# Altium schematic symbol library MCU_Microchip_ATmega.SchLib: 440 symbols (part 5 of 9)
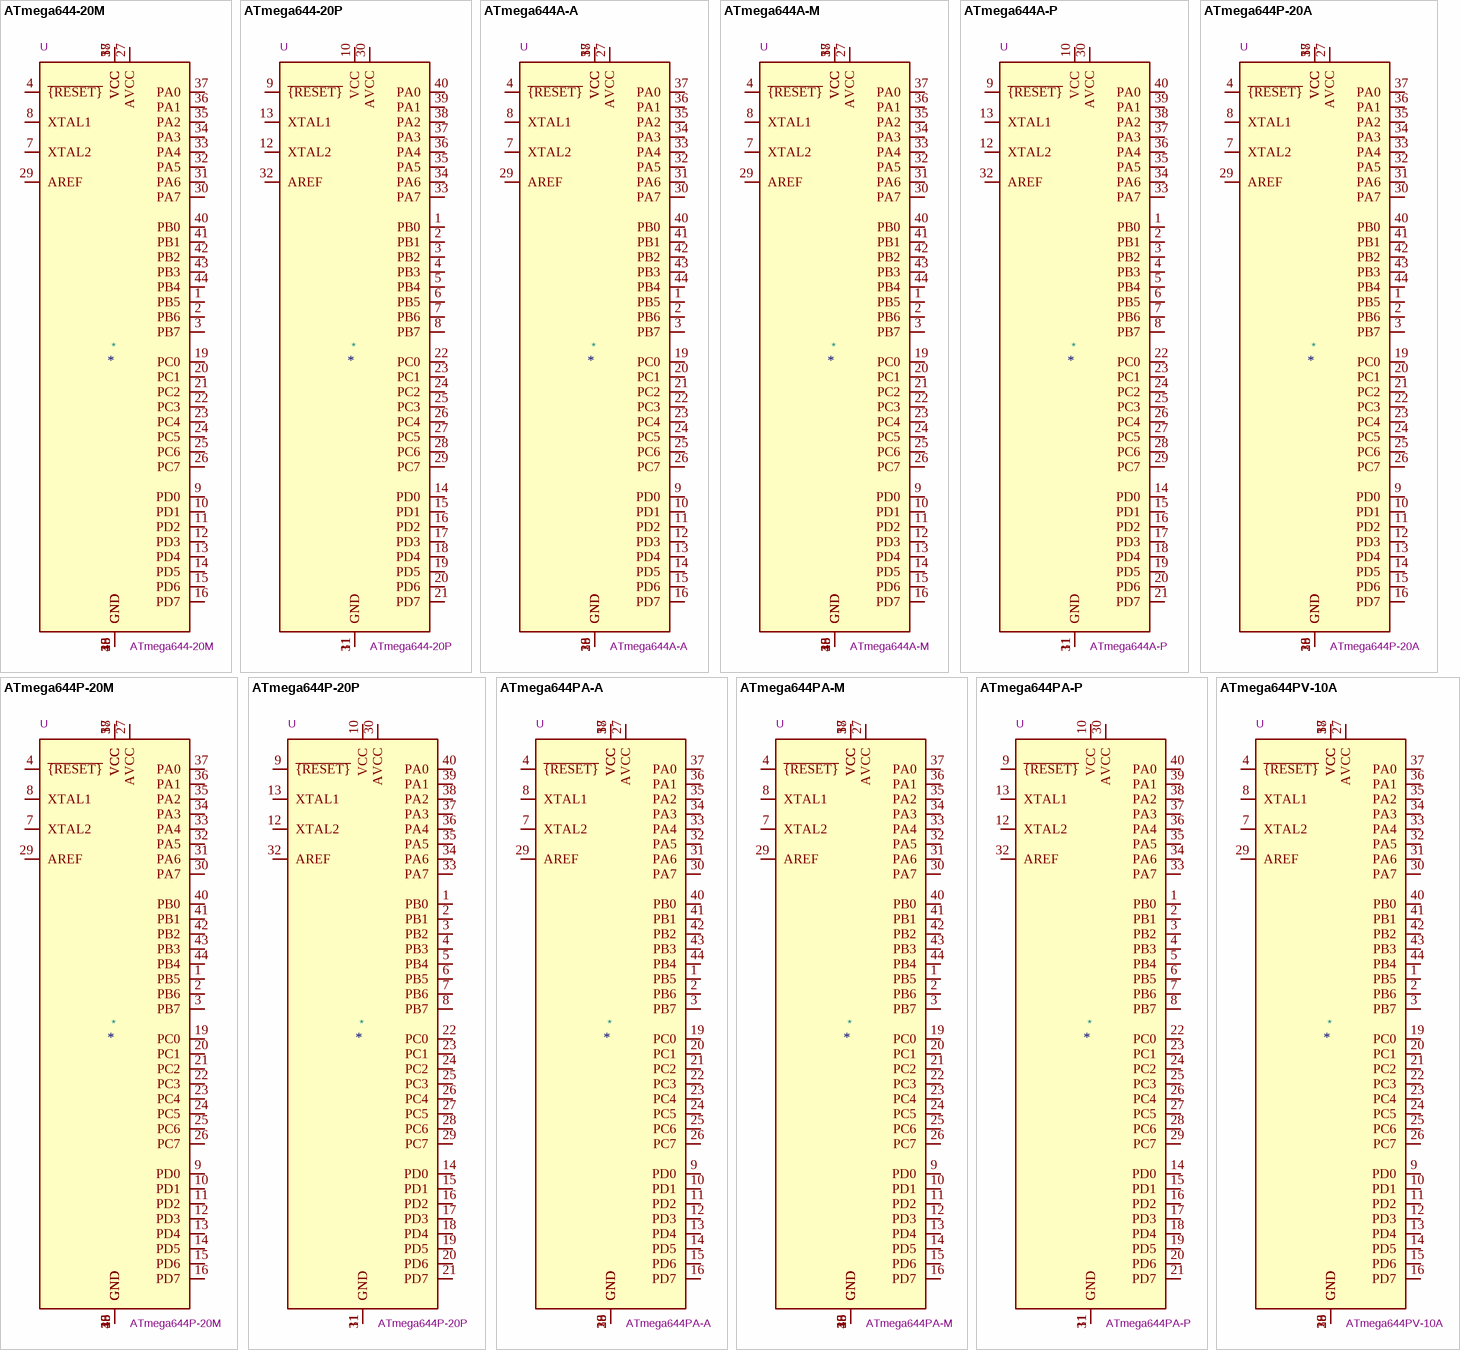
[diagram p44: symbols ATmega644-20M to ATmega644PV-10A]

## ATmega644PA-M
designator *  value ATmega644PA-M  Reference: U
20MHz, 64kB Flash, 4kB SRAM, 2kB EEPROM, JTAG, QFN-44; ki_keywords: AVR 8bit Microcontroller MegaAVR PicoPower; ki_fp_filters: QFN*1EP*7x7mm*P0.5mm*; Footprint: Package_DFN_QFN:QFN-44-1EP_7x7mm_P0.5mm_EP5.2x5.2mm; Datasheet: http://ww1.microchip.com/downloads/en/DeviceDoc/Atmel-8272-8-bit-AVR-microcontroller-ATmega164A_PA-324A_PA-644A_PA-1284_P_datasheet.pdf; Description_: 20MHz, 64kB Flash, 4kB SRAM, 2kB EEPROM, JTAG, QFN-44
pins: 1 PB5, 2 PB6, 3 PB7, 4 ~{{RESET}}, 5 VCC, 6 GND, 7 XTAL2, 8 XTAL1, 9 PD0, 10 PD1, 11 PD2, 12 PD3, 13 PD4, 14 PD5, 15 PD6, 16 PD7, 17 VCC, 18 GND, 19 PC0, 20 PC1, 21 PC2, 22 PC3, 23 PC4, 24 PC5, 25 PC6, 26 PC7, 27 AVCC, 28 GND, 29 AREF, 30 PA7, 31 PA6, 32 PA5, 33 PA4, 34 PA3, 35 PA2, 36 PA1, 37 PA0, 38 VCC, 39 GND, 40 PB0, 41 PB1, 42 PB2, 43 PB3, 44 PB4, 45 GND

## ATmega644PA-P
designator *  value ATmega644PA-P  Reference: U
20MHz, 64kB Flash, 4kB SRAM, 2kB EEPROM, JTAG, DIP-40; ki_keywords: AVR 8bit Microcontroller MegaAVR PicoPower; ki_fp_filters: DIP*W15.24mm*; Footprint: Package_DIP:DIP-40_W15.24mm; Datasheet: http://ww1.microchip.com/downloads/en/DeviceDoc/Atmel-8272-8-bit-AVR-microcontroller-ATmega164A_PA-324A_PA-644A_PA-1284_P_datasheet.pdf; Description_: 20MHz, 64kB Flash, 4kB SRAM, 2kB EEPROM, JTAG, DIP-40
pins: 1 PB0, 2 PB1, 3 PB2, 4 PB3, 5 PB4, 6 PB5, 7 PB6, 8 PB7, 9 ~{{RESET}}, 10 VCC, 11 GND, 12 XTAL2, 13 XTAL1, 14 PD0, 15 PD1, 16 PD2, 17 PD3, 18 PD4, 19 PD5, 20 PD6, 21 PD7, 22 PC0, 23 PC1, 24 PC2, 25 PC3, 26 PC4, 27 PC5, 28 PC6, 29 PC7, 30 AVCC, 31 GND, 32 AREF, 33 PA7, 34 PA6, 35 PA5, 36 PA4, 37 PA3, 38 PA2, 39 PA1, 40 PA0

## ATmega644PV-10A
designator *  value ATmega644PV-10A  Reference: U
10MHz, 64kB Flash, 4kB SRAM, 2kB EEPROM, JTAG, TQFP-44; ki_keywords: AVR 8bit Microcontroller MegaAVR PicoPower; ki_fp_filters: TQFP*10x10mm*P0.8mm*; Footprint: Package_QFP:TQFP-44_10x10mm_P0.8mm; Datasheet: http://ww1.microchip.com/downloads/en/DeviceDoc/Atmel-42744-ATmega644P_Datasheet.pdf; Description_: 10MHz, 64kB Flash, 4kB SRAM, 2kB EEPROM, JTAG, TQFP-44
pins: 1 PB5, 2 PB6, 3 PB7, 4 ~{{RESET}}, 5 VCC, 6 GND, 7 XTAL2, 8 XTAL1, 9 PD0, 10 PD1, 11 PD2, 12 PD3, 13 PD4, 14 PD5, 15 PD6, 16 PD7, 17 VCC, 18 GND, 19 PC0, 20 PC1, 21 PC2, 22 PC3, 23 PC4, 24 PC5, 25 PC6, 26 PC7, 27 AVCC, 28 GND, 29 AREF, 30 PA7, 31 PA6, 32 PA5, 33 PA4, 34 PA3, 35 PA2, 36 PA1, 37 PA0, 38 VCC, 39 GND, 40 PB0, 41 PB1, 42 PB2, 43 PB3, 44 PB4

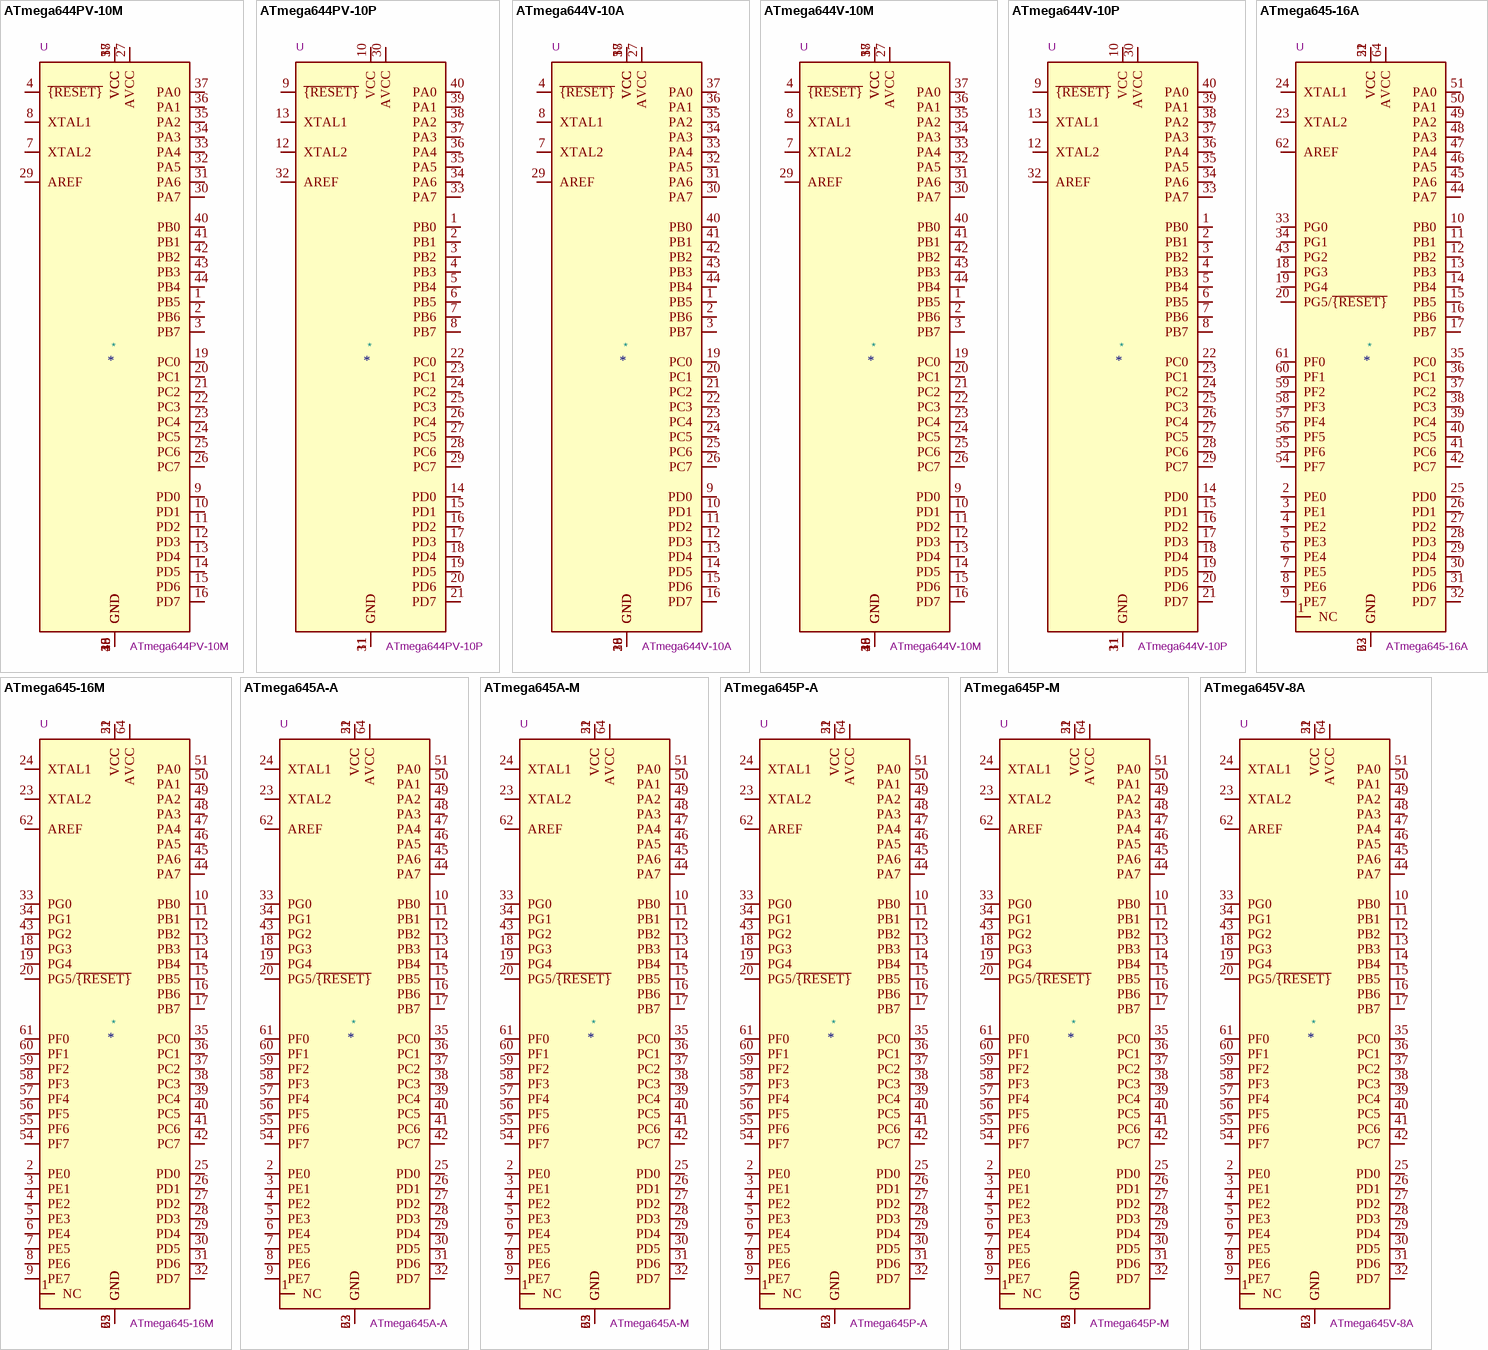
[diagram p20: symbols ATmega644PV-10M to ATmega645V-8A]

## ATmega644PV-10M
designator *  value ATmega644PV-10M  Reference: U
10MHz, 64kB Flash, 4kB SRAM, 2kB EEPROM, JTAG, QFN-44; ki_keywords: AVR 8bit Microcontroller MegaAVR PicoPower; ki_fp_filters: QFN*1EP*7x7mm*P0.5mm*; Footprint: Package_DFN_QFN:QFN-44-1EP_7x7mm_P0.5mm_EP5.2x5.2mm; Datasheet: http://ww1.microchip.com/downloads/en/DeviceDoc/Atmel-42744-ATmega644P_Datasheet.pdf; Description_: 10MHz, 64kB Flash, 4kB SRAM, 2kB EEPROM, JTAG, QFN-44
pins: 1 PB5, 2 PB6, 3 PB7, 4 ~{{RESET}}, 5 VCC, 6 GND, 7 XTAL2, 8 XTAL1, 9 PD0, 10 PD1, 11 PD2, 12 PD3, 13 PD4, 14 PD5, 15 PD6, 16 PD7, 17 VCC, 18 GND, 19 PC0, 20 PC1, 21 PC2, 22 PC3, 23 PC4, 24 PC5, 25 PC6, 26 PC7, 27 AVCC, 28 GND, 29 AREF, 30 PA7, 31 PA6, 32 PA5, 33 PA4, 34 PA3, 35 PA2, 36 PA1, 37 PA0, 38 VCC, 39 GND, 40 PB0, 41 PB1, 42 PB2, 43 PB3, 44 PB4, 45 GND

## ATmega644PV-10P
designator *  value ATmega644PV-10P  Reference: U
10MHz, 64kB Flash, 4kB SRAM, 2kB EEPROM, JTAG, DIP-40; ki_keywords: AVR 8bit Microcontroller MegaAVR PicoPower; ki_fp_filters: DIP*W15.24mm*; Footprint: Package_DIP:DIP-40_W15.24mm; Datasheet: http://ww1.microchip.com/downloads/en/DeviceDoc/Atmel-42744-ATmega644P_Datasheet.pdf; Description_: 10MHz, 64kB Flash, 4kB SRAM, 2kB EEPROM, JTAG, DIP-40
pins: 1 PB0, 2 PB1, 3 PB2, 4 PB3, 5 PB4, 6 PB5, 7 PB6, 8 PB7, 9 ~{{RESET}}, 10 VCC, 11 GND, 12 XTAL2, 13 XTAL1, 14 PD0, 15 PD1, 16 PD2, 17 PD3, 18 PD4, 19 PD5, 20 PD6, 21 PD7, 22 PC0, 23 PC1, 24 PC2, 25 PC3, 26 PC4, 27 PC5, 28 PC6, 29 PC7, 30 AVCC, 31 GND, 32 AREF, 33 PA7, 34 PA6, 35 PA5, 36 PA4, 37 PA3, 38 PA2, 39 PA1, 40 PA0

## ATmega644V-10A
designator *  value ATmega644V-10A  Reference: U
10MHz, 64kB Flash, 4kB SRAM, 2kB EEPROM, JTAG, TQFP-44; ki_keywords: AVR 8bit Microcontroller MegaAVR; ki_fp_filters: TQFP*10x10mm*P0.8mm*; Footprint: Package_QFP:TQFP-44_10x10mm_P0.8mm; Datasheet: http://ww1.microchip.com/downloads/en/DeviceDoc/doc2593.pdf; Description_: 10MHz, 64kB Flash, 4kB SRAM, 2kB EEPROM, JTAG, TQFP-44
pins: 1 PB5, 2 PB6, 3 PB7, 4 ~{{RESET}}, 5 VCC, 6 GND, 7 XTAL2, 8 XTAL1, 9 PD0, 10 PD1, 11 PD2, 12 PD3, 13 PD4, 14 PD5, 15 PD6, 16 PD7, 17 VCC, 18 GND, 19 PC0, 20 PC1, 21 PC2, 22 PC3, 23 PC4, 24 PC5, 25 PC6, 26 PC7, 27 AVCC, 28 GND, 29 AREF, 30 PA7, 31 PA6, 32 PA5, 33 PA4, 34 PA3, 35 PA2, 36 PA1, 37 PA0, 38 VCC, 39 GND, 40 PB0, 41 PB1, 42 PB2, 43 PB3, 44 PB4

## ATmega644V-10M
designator *  value ATmega644V-10M  Reference: U
10MHz, 64kB Flash, 4kB SRAM, 2kB EEPROM, JTAG, QFN-44; ki_keywords: AVR 8bit Microcontroller MegaAVR; ki_fp_filters: QFN*1EP*7x7mm*P0.5mm*; Footprint: Package_DFN_QFN:QFN-44-1EP_7x7mm_P0.5mm_EP5.2x5.2mm; Datasheet: http://ww1.microchip.com/downloads/en/DeviceDoc/doc2593.pdf; Description_: 10MHz, 64kB Flash, 4kB SRAM, 2kB EEPROM, JTAG, QFN-44
pins: 1 PB5, 2 PB6, 3 PB7, 4 ~{{RESET}}, 5 VCC, 6 GND, 7 XTAL2, 8 XTAL1, 9 PD0, 10 PD1, 11 PD2, 12 PD3, 13 PD4, 14 PD5, 15 PD6, 16 PD7, 17 VCC, 18 GND, 19 PC0, 20 PC1, 21 PC2, 22 PC3, 23 PC4, 24 PC5, 25 PC6, 26 PC7, 27 AVCC, 28 GND, 29 AREF, 30 PA7, 31 PA6, 32 PA5, 33 PA4, 34 PA3, 35 PA2, 36 PA1, 37 PA0, 38 VCC, 39 GND, 40 PB0, 41 PB1, 42 PB2, 43 PB3, 44 PB4, 45 GND

## ATmega644V-10P
designator *  value ATmega644V-10P  Reference: U
10MHz, 64kB Flash, 4kB SRAM, 2kB EEPROM, JTAG, DIP-40; ki_keywords: AVR 8bit Microcontroller MegaAVR; ki_fp_filters: DIP*W15.24mm*; Footprint: Package_DIP:DIP-40_W15.24mm; Datasheet: http://ww1.microchip.com/downloads/en/DeviceDoc/doc2593.pdf; Description_: 10MHz, 64kB Flash, 4kB SRAM, 2kB EEPROM, JTAG, DIP-40
pins: 1 PB0, 2 PB1, 3 PB2, 4 PB3, 5 PB4, 6 PB5, 7 PB6, 8 PB7, 9 ~{{RESET}}, 10 VCC, 11 GND, 12 XTAL2, 13 XTAL1, 14 PD0, 15 PD1, 16 PD2, 17 PD3, 18 PD4, 19 PD5, 20 PD6, 21 PD7, 22 PC0, 23 PC1, 24 PC2, 25 PC3, 26 PC4, 27 PC5, 28 PC6, 29 PC7, 30 AVCC, 31 GND, 32 AREF, 33 PA7, 34 PA6, 35 PA5, 36 PA4, 37 PA3, 38 PA2, 39 PA1, 40 PA0

## ATmega645-16A
designator *  value ATmega645-16A  Reference: U
16MHz, 64kB Flash, 4kB SRAM, 2kB EEPROM, JTAG, TQFP-64; ki_keywords: AVR 8bit Microcontroller MegaAVR; ki_fp_filters: TQFP*14x14mm*P0.8mm*; Footprint: Package_QFP:TQFP-64_14x14mm_P0.8mm; Datasheet: http://ww1.microchip.com/downloads/en/DeviceDoc/doc2570.pdf; Description_: 16MHz, 64kB Flash, 4kB SRAM, 2kB EEPROM, JTAG, TQFP-64
pins: 1 NC, 2 PE0, 3 PE1, 4 PE2, 5 PE3, 6 PE4, 7 PE5, 8 PE6, 9 PE7, 10 PB0, 11 PB1, 12 PB2, 13 PB3, 14 PB4, 15 PB5, 16 PB6, 17 PB7, 18 PG3, 19 PG4, 20 PG5/~{{RESET}}, 21 VCC, 22 GND, 23 XTAL2, 24 XTAL1, 25 PD0, 26 PD1, 27 PD2, 28 PD3, 29 PD4, 30 PD5, 31 PD6, 32 PD7, 33 PG0, 34 PG1, 35 PC0, 36 PC1, 37 PC2, 38 PC3, 39 PC4, 40 PC5, 41 PC6, 42 PC7, 43 PG2, 44 PA7, 45 PA6, 46 PA5, 47 PA4, 48 PA3, 49 PA2, 50 PA1, 51 PA0, 52 VCC, 53 GND, 54 PF7, 55 PF6, 56 PF5, 57 PF4, 58 PF3, 59 PF2, 60 PF1, 61 PF0, 62 AREF, 63 GND, 64 AVCC

## ATmega645-16M
designator *  value ATmega645-16M  Reference: U
16MHz, 64kB Flash, 4kB SRAM, 2kB EEPROM, JTAG, QFN-64; ki_keywords: AVR 8bit Microcontroller MegaAVR; ki_fp_filters: QFN*1EP*9x9mm*P0.5mm*; Footprint: Package_DFN_QFN:QFN-64-1EP_9x9mm_P0.5mm_EP5.4x5.4mm; Datasheet: http://ww1.microchip.com/downloads/en/DeviceDoc/doc2570.pdf; Description_: 16MHz, 64kB Flash, 4kB SRAM, 2kB EEPROM, JTAG, QFN-64
pins: 1 NC, 2 PE0, 3 PE1, 4 PE2, 5 PE3, 6 PE4, 7 PE5, 8 PE6, 9 PE7, 10 PB0, 11 PB1, 12 PB2, 13 PB3, 14 PB4, 15 PB5, 16 PB6, 17 PB7, 18 PG3, 19 PG4, 20 PG5/~{{RESET}}, 21 VCC, 22 GND, 23 XTAL2, 24 XTAL1, 25 PD0, 26 PD1, 27 PD2, 28 PD3, 29 PD4, 30 PD5, 31 PD6, 32 PD7, 33 PG0, 34 PG1, 35 PC0, 36 PC1, 37 PC2, 38 PC3, 39 PC4, 40 PC5, 41 PC6, 42 PC7, 43 PG2, 44 PA7, 45 PA6, 46 PA5, 47 PA4, 48 PA3, 49 PA2, 50 PA1, 51 PA0, 52 VCC, 53 GND, 54 PF7, 55 PF6, 56 PF5, 57 PF4, 58 PF3, 59 PF2, 60 PF1, 61 PF0, 62 AREF, 63 GND, 64 AVCC, 65 GND

## ATmega645A-A
designator *  value ATmega645A-A  Reference: U
20MHz, 64kB Flash, 4kB SRAM, 2kB EEPROM, TQFP-64; ki_keywords: AVR 8bit Microcontroller MegaAVR PicoPower; ki_fp_filters: TQFP*14x14mm*P0.8mm*; Footprint: Package_QFP:TQFP-64_14x14mm_P0.8mm; Datasheet: http://ww1.microchip.com/downloads/en/DeviceDoc/atmel-8285-8-bit-avr-microcontroller-atmega165a_pa_325a_pa_3250a_pa_645a_p_6450a_p_datasheet.pdf; Description_: 20MHz, 64kB Flash, 4kB SRAM, 2kB EEPROM, TQFP-64
pins: 1 NC, 2 PE0, 3 PE1, 4 PE2, 5 PE3, 6 PE4, 7 PE5, 8 PE6, 9 PE7, 10 PB0, 11 PB1, 12 PB2, 13 PB3, 14 PB4, 15 PB5, 16 PB6, 17 PB7, 18 PG3, 19 PG4, 20 PG5/~{{RESET}}, 21 VCC, 22 GND, 23 XTAL2, 24 XTAL1, 25 PD0, 26 PD1, 27 PD2, 28 PD3, 29 PD4, 30 PD5, 31 PD6, 32 PD7, 33 PG0, 34 PG1, 35 PC0, 36 PC1, 37 PC2, 38 PC3, 39 PC4, 40 PC5, 41 PC6, 42 PC7, 43 PG2, 44 PA7, 45 PA6, 46 PA5, 47 PA4, 48 PA3, 49 PA2, 50 PA1, 51 PA0, 52 VCC, 53 GND, 54 PF7, 55 PF6, 56 PF5, 57 PF4, 58 PF3, 59 PF2, 60 PF1, 61 PF0, 62 AREF, 63 GND, 64 AVCC

## ATmega645A-M
designator *  value ATmega645A-M  Reference: U
20MHz, 64kB Flash, 4kB SRAM, 2kB EEPROM, QFN-64; ki_keywords: AVR 8bit Microcontroller MegaAVR PicoPower; ki_fp_filters: QFN*1EP*9x9mm*P0.5mm*; Footprint: Package_DFN_QFN:QFN-64-1EP_9x9mm_P0.5mm_EP5.4x5.4mm; Datasheet: http://ww1.microchip.com/downloads/en/DeviceDoc/atmel-8285-8-bit-avr-microcontroller-atmega165a_pa_325a_pa_3250a_pa_645a_p_6450a_p_datasheet.pdf; Description_: 20MHz, 64kB Flash, 4kB SRAM, 2kB EEPROM, QFN-64
pins: 1 NC, 2 PE0, 3 PE1, 4 PE2, 5 PE3, 6 PE4, 7 PE5, 8 PE6, 9 PE7, 10 PB0, 11 PB1, 12 PB2, 13 PB3, 14 PB4, 15 PB5, 16 PB6, 17 PB7, 18 PG3, 19 PG4, 20 PG5/~{{RESET}}, 21 VCC, 22 GND, 23 XTAL2, 24 XTAL1, 25 PD0, 26 PD1, 27 PD2, 28 PD3, 29 PD4, 30 PD5, 31 PD6, 32 PD7, 33 PG0, 34 PG1, 35 PC0, 36 PC1, 37 PC2, 38 PC3, 39 PC4, 40 PC5, 41 PC6, 42 PC7, 43 PG2, 44 PA7, 45 PA6, 46 PA5, 47 PA4, 48 PA3, 49 PA2, 50 PA1, 51 PA0, 52 VCC, 53 GND, 54 PF7, 55 PF6, 56 PF5, 57 PF4, 58 PF3, 59 PF2, 60 PF1, 61 PF0, 62 AREF, 63 GND, 64 AVCC, 65 GND

## ATmega645P-A
designator *  value ATmega645P-A  Reference: U
20MHz, 64kB Flash, 4kB SRAM, 2kB EEPROM, TQFP-64; ki_keywords: AVR 8bit Microcontroller MegaAVR PicoPower; ki_fp_filters: TQFP*14x14mm*P0.8mm*; Footprint: Package_QFP:TQFP-64_14x14mm_P0.8mm; Datasheet: http://ww1.microchip.com/downloads/en/DeviceDoc/atmel-8285-8-bit-avr-microcontroller-atmega165a_pa_325a_pa_3250a_pa_645a_p_6450a_p_datasheet.pdf; Description_: 20MHz, 64kB Flash, 4kB SRAM, 2kB EEPROM, TQFP-64
pins: 1 NC, 2 PE0, 3 PE1, 4 PE2, 5 PE3, 6 PE4, 7 PE5, 8 PE6, 9 PE7, 10 PB0, 11 PB1, 12 PB2, 13 PB3, 14 PB4, 15 PB5, 16 PB6, 17 PB7, 18 PG3, 19 PG4, 20 PG5/~{{RESET}}, 21 VCC, 22 GND, 23 XTAL2, 24 XTAL1, 25 PD0, 26 PD1, 27 PD2, 28 PD3, 29 PD4, 30 PD5, 31 PD6, 32 PD7, 33 PG0, 34 PG1, 35 PC0, 36 PC1, 37 PC2, 38 PC3, 39 PC4, 40 PC5, 41 PC6, 42 PC7, 43 PG2, 44 PA7, 45 PA6, 46 PA5, 47 PA4, 48 PA3, 49 PA2, 50 PA1, 51 PA0, 52 VCC, 53 GND, 54 PF7, 55 PF6, 56 PF5, 57 PF4, 58 PF3, 59 PF2, 60 PF1, 61 PF0, 62 AREF, 63 GND, 64 AVCC

## ATmega645P-M
designator *  value ATmega645P-M  Reference: U
20MHz, 64kB Flash, 4kB SRAM, 2kB EEPROM, QFN-64; ki_keywords: AVR 8bit Microcontroller MegaAVR PicoPower; ki_fp_filters: QFN*1EP*9x9mm*P0.5mm*; Footprint: Package_DFN_QFN:QFN-64-1EP_9x9mm_P0.5mm_EP5.4x5.4mm; Datasheet: http://ww1.microchip.com/downloads/en/DeviceDoc/atmel-8285-8-bit-avr-microcontroller-atmega165a_pa_325a_pa_3250a_pa_645a_p_6450a_p_datasheet.pdf; Description_: 20MHz, 64kB Flash, 4kB SRAM, 2kB EEPROM, QFN-64
pins: 1 NC, 2 PE0, 3 PE1, 4 PE2, 5 PE3, 6 PE4, 7 PE5, 8 PE6, 9 PE7, 10 PB0, 11 PB1, 12 PB2, 13 PB3, 14 PB4, 15 PB5, 16 PB6, 17 PB7, 18 PG3, 19 PG4, 20 PG5/~{{RESET}}, 21 VCC, 22 GND, 23 XTAL2, 24 XTAL1, 25 PD0, 26 PD1, 27 PD2, 28 PD3, 29 PD4, 30 PD5, 31 PD6, 32 PD7, 33 PG0, 34 PG1, 35 PC0, 36 PC1, 37 PC2, 38 PC3, 39 PC4, 40 PC5, 41 PC6, 42 PC7, 43 PG2, 44 PA7, 45 PA6, 46 PA5, 47 PA4, 48 PA3, 49 PA2, 50 PA1, 51 PA0, 52 VCC, 53 GND, 54 PF7, 55 PF6, 56 PF5, 57 PF4, 58 PF3, 59 PF2, 60 PF1, 61 PF0, 62 AREF, 63 GND, 64 AVCC, 65 GND

## ATmega645V-8A
designator *  value ATmega645V-8A  Reference: U
8MHz, 64kB Flash, 4kB SRAM, 2kB EEPROM, JTAG, TQFP-64; ki_keywords: AVR 8bit Microcontroller MegaAVR; ki_fp_filters: TQFP*14x14mm*P0.8mm*; Footprint: Package_QFP:TQFP-64_14x14mm_P0.8mm; Datasheet: http://ww1.microchip.com/downloads/en/DeviceDoc/doc2570.pdf; Description_: 8MHz, 64kB Flash, 4kB SRAM, 2kB EEPROM, JTAG, TQFP-64
pins: 1 NC, 2 PE0, 3 PE1, 4 PE2, 5 PE3, 6 PE4, 7 PE5, 8 PE6, 9 PE7, 10 PB0, 11 PB1, 12 PB2, 13 PB3, 14 PB4, 15 PB5, 16 PB6, 17 PB7, 18 PG3, 19 PG4, 20 PG5/~{{RESET}}, 21 VCC, 22 GND, 23 XTAL2, 24 XTAL1, 25 PD0, 26 PD1, 27 PD2, 28 PD3, 29 PD4, 30 PD5, 31 PD6, 32 PD7, 33 PG0, 34 PG1, 35 PC0, 36 PC1, 37 PC2, 38 PC3, 39 PC4, 40 PC5, 41 PC6, 42 PC7, 43 PG2, 44 PA7, 45 PA6, 46 PA5, 47 PA4, 48 PA3, 49 PA2, 50 PA1, 51 PA0, 52 VCC, 53 GND, 54 PF7, 55 PF6, 56 PF5, 57 PF4, 58 PF3, 59 PF2, 60 PF1, 61 PF0, 62 AREF, 63 GND, 64 AVCC

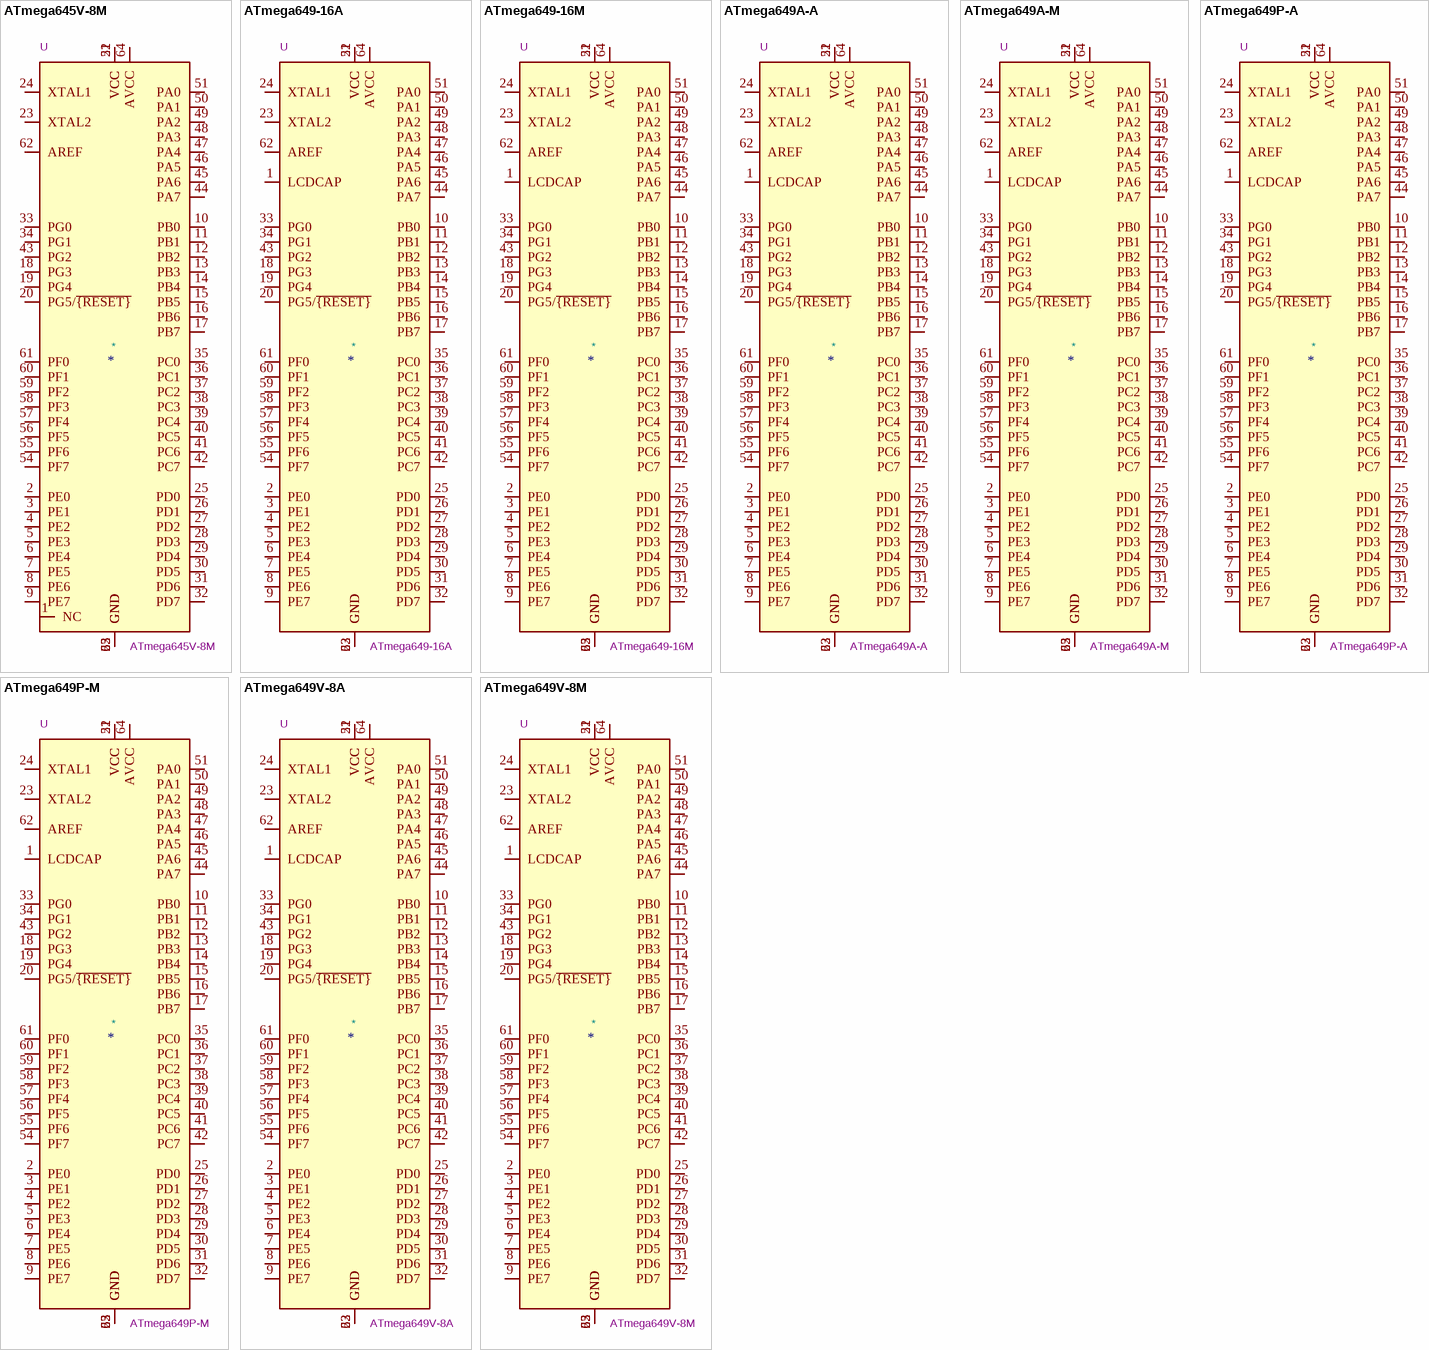
[diagram p21: symbols ATmega645V-8M to ATmega649V-8M]

## ATmega645V-8M
designator *  value ATmega645V-8M  Reference: U
8MHz, 64kB Flash, 4kB SRAM, 2kB EEPROM, JTAG, QFN-64; ki_keywords: AVR 8bit Microcontroller MegaAVR; ki_fp_filters: QFN*1EP*9x9mm*P0.5mm*; Footprint: Package_DFN_QFN:QFN-64-1EP_9x9mm_P0.5mm_EP5.4x5.4mm; Datasheet: http://ww1.microchip.com/downloads/en/DeviceDoc/doc2570.pdf; Description_: 8MHz, 64kB Flash, 4kB SRAM, 2kB EEPROM, JTAG, QFN-64
pins: 1 NC, 2 PE0, 3 PE1, 4 PE2, 5 PE3, 6 PE4, 7 PE5, 8 PE6, 9 PE7, 10 PB0, 11 PB1, 12 PB2, 13 PB3, 14 PB4, 15 PB5, 16 PB6, 17 PB7, 18 PG3, 19 PG4, 20 PG5/~{{RESET}}, 21 VCC, 22 GND, 23 XTAL2, 24 XTAL1, 25 PD0, 26 PD1, 27 PD2, 28 PD3, 29 PD4, 30 PD5, 31 PD6, 32 PD7, 33 PG0, 34 PG1, 35 PC0, 36 PC1, 37 PC2, 38 PC3, 39 PC4, 40 PC5, 41 PC6, 42 PC7, 43 PG2, 44 PA7, 45 PA6, 46 PA5, 47 PA4, 48 PA3, 49 PA2, 50 PA1, 51 PA0, 52 VCC, 53 GND, 54 PF7, 55 PF6, 56 PF5, 57 PF4, 58 PF3, 59 PF2, 60 PF1, 61 PF0, 62 AREF, 63 GND, 64 AVCC, 65 GND

## ATmega649-16A
designator *  value ATmega649-16A  Reference: U
16MHz, 64kB Flash, 4kB SRAM, 2kB EEPROM, JTAG, TQFP-64; ki_keywords: AVR 8bit Microcontroller MegaAVR; ki_fp_filters: TQFP*14x14mm*P0.8mm*; Footprint: Package_QFP:TQFP-64_14x14mm_P0.8mm; Datasheet: http://ww1.microchip.com/downloads/en/DeviceDoc/doc2552.pdf; Description_: 16MHz, 64kB Flash, 4kB SRAM, 2kB EEPROM, JTAG, TQFP-64
pins: 1 LCDCAP, 2 PE0, 3 PE1, 4 PE2, 5 PE3, 6 PE4, 7 PE5, 8 PE6, 9 PE7, 10 PB0, 11 PB1, 12 PB2, 13 PB3, 14 PB4, 15 PB5, 16 PB6, 17 PB7, 18 PG3, 19 PG4, 20 PG5/~{{RESET}}, 21 VCC, 22 GND, 23 XTAL2, 24 XTAL1, 25 PD0, 26 PD1, 27 PD2, 28 PD3, 29 PD4, 30 PD5, 31 PD6, 32 PD7, 33 PG0, 34 PG1, 35 PC0, 36 PC1, 37 PC2, 38 PC3, 39 PC4, 40 PC5, 41 PC6, 42 PC7, 43 PG2, 44 PA7, 45 PA6, 46 PA5, 47 PA4, 48 PA3, 49 PA2, 50 PA1, 51 PA0, 52 VCC, 53 GND, 54 PF7, 55 PF6, 56 PF5, 57 PF4, 58 PF3, 59 PF2, 60 PF1, 61 PF0, 62 AREF, 63 GND, 64 AVCC

## ATmega649-16M
designator *  value ATmega649-16M  Reference: U
16MHz, 64kB Flash, 4kB SRAM, 2kB EEPROM, JTAG, QFN-64; ki_keywords: AVR 8bit Microcontroller MegaAVR; ki_fp_filters: QFN*1EP*9x9mm*P0.5mm*; Footprint: Package_DFN_QFN:QFN-64-1EP_9x9mm_P0.5mm_EP5.4x5.4mm; Datasheet: http://ww1.microchip.com/downloads/en/DeviceDoc/doc2552.pdf; Description_: 16MHz, 64kB Flash, 4kB SRAM, 2kB EEPROM, JTAG, QFN-64
pins: 1 LCDCAP, 2 PE0, 3 PE1, 4 PE2, 5 PE3, 6 PE4, 7 PE5, 8 PE6, 9 PE7, 10 PB0, 11 PB1, 12 PB2, 13 PB3, 14 PB4, 15 PB5, 16 PB6, 17 PB7, 18 PG3, 19 PG4, 20 PG5/~{{RESET}}, 21 VCC, 22 GND, 23 XTAL2, 24 XTAL1, 25 PD0, 26 PD1, 27 PD2, 28 PD3, 29 PD4, 30 PD5, 31 PD6, 32 PD7, 33 PG0, 34 PG1, 35 PC0, 36 PC1, 37 PC2, 38 PC3, 39 PC4, 40 PC5, 41 PC6, 42 PC7, 43 PG2, 44 PA7, 45 PA6, 46 PA5, 47 PA4, 48 PA3, 49 PA2, 50 PA1, 51 PA0, 52 VCC, 53 GND, 54 PF7, 55 PF6, 56 PF5, 57 PF4, 58 PF3, 59 PF2, 60 PF1, 61 PF0, 62 AREF, 63 GND, 64 AVCC, 65 GND

## ATmega649A-A
designator *  value ATmega649A-A  Reference: U
16MHz, 64kB Flash, 4kB SRAM, 2kB EEPROM, TQFP-64; ki_keywords: AVR 8bit Microcontroller MegaAVR LCD PicoPower; ki_fp_filters: TQFP*14x14mm*P0.8mm*; Footprint: Package_QFP:TQFP-64_14x14mm_P0.8mm; Datasheet: http://ww1.microchip.com/downloads/en/DeviceDoc/atmel-8284-8-bit-avr-microcontroller-atmega169a_pa_329a_pa_3290a_pa_649a_p_6490a_p_datasheet.pdf; Description_: 16MHz, 64kB Flash, 4kB SRAM, 2kB EEPROM, TQFP-64
pins: 1 LCDCAP, 2 PE0, 3 PE1, 4 PE2, 5 PE3, 6 PE4, 7 PE5, 8 PE6, 9 PE7, 10 PB0, 11 PB1, 12 PB2, 13 PB3, 14 PB4, 15 PB5, 16 PB6, 17 PB7, 18 PG3, 19 PG4, 20 PG5/~{{RESET}}, 21 VCC, 22 GND, 23 XTAL2, 24 XTAL1, 25 PD0, 26 PD1, 27 PD2, 28 PD3, 29 PD4, 30 PD5, 31 PD6, 32 PD7, 33 PG0, 34 PG1, 35 PC0, 36 PC1, 37 PC2, 38 PC3, 39 PC4, 40 PC5, 41 PC6, 42 PC7, 43 PG2, 44 PA7, 45 PA6, 46 PA5, 47 PA4, 48 PA3, 49 PA2, 50 PA1, 51 PA0, 52 VCC, 53 GND, 54 PF7, 55 PF6, 56 PF5, 57 PF4, 58 PF3, 59 PF2, 60 PF1, 61 PF0, 62 AREF, 63 GND, 64 AVCC

## ATmega649A-M
designator *  value ATmega649A-M  Reference: U
16MHz, 64kB Flash, 4kB SRAM, 2kB EEPROM, QFN-64; ki_keywords: AVR 8bit Microcontroller MegaAVR LCD PicoPower; ki_fp_filters: QFN*1EP*9x9mm*P0.5mm*; Footprint: Package_DFN_QFN:QFN-64-1EP_9x9mm_P0.5mm_EP5.4x5.4mm; Datasheet: http://ww1.microchip.com/downloads/en/DeviceDoc/atmel-8284-8-bit-avr-microcontroller-atmega169a_pa_329a_pa_3290a_pa_649a_p_6490a_p_datasheet.pdf; Description_: 16MHz, 64kB Flash, 4kB SRAM, 2kB EEPROM, QFN-64
pins: 1 LCDCAP, 2 PE0, 3 PE1, 4 PE2, 5 PE3, 6 PE4, 7 PE5, 8 PE6, 9 PE7, 10 PB0, 11 PB1, 12 PB2, 13 PB3, 14 PB4, 15 PB5, 16 PB6, 17 PB7, 18 PG3, 19 PG4, 20 PG5/~{{RESET}}, 21 VCC, 22 GND, 23 XTAL2, 24 XTAL1, 25 PD0, 26 PD1, 27 PD2, 28 PD3, 29 PD4, 30 PD5, 31 PD6, 32 PD7, 33 PG0, 34 PG1, 35 PC0, 36 PC1, 37 PC2, 38 PC3, 39 PC4, 40 PC5, 41 PC6, 42 PC7, 43 PG2, 44 PA7, 45 PA6, 46 PA5, 47 PA4, 48 PA3, 49 PA2, 50 PA1, 51 PA0, 52 VCC, 53 GND, 54 PF7, 55 PF6, 56 PF5, 57 PF4, 58 PF3, 59 PF2, 60 PF1, 61 PF0, 62 AREF, 63 GND, 64 AVCC, 65 GND

## ATmega649P-A
designator *  value ATmega649P-A  Reference: U
16MHz, 64kB Flash, 4kB SRAM, 2kB EEPROM, TQFP-64; ki_keywords: AVR 8bit Microcontroller MegaAVR LCD PicoPower; ki_fp_filters: TQFP*14x14mm*P0.8mm*; Footprint: Package_QFP:TQFP-64_14x14mm_P0.8mm; Datasheet: http://ww1.microchip.com/downloads/en/DeviceDoc/atmel-8284-8-bit-avr-microcontroller-atmega169a_pa_329a_pa_3290a_pa_649a_p_6490a_p_datasheet.pdf; Description_: 16MHz, 64kB Flash, 4kB SRAM, 2kB EEPROM, TQFP-64
pins: 1 LCDCAP, 2 PE0, 3 PE1, 4 PE2, 5 PE3, 6 PE4, 7 PE5, 8 PE6, 9 PE7, 10 PB0, 11 PB1, 12 PB2, 13 PB3, 14 PB4, 15 PB5, 16 PB6, 17 PB7, 18 PG3, 19 PG4, 20 PG5/~{{RESET}}, 21 VCC, 22 GND, 23 XTAL2, 24 XTAL1, 25 PD0, 26 PD1, 27 PD2, 28 PD3, 29 PD4, 30 PD5, 31 PD6, 32 PD7, 33 PG0, 34 PG1, 35 PC0, 36 PC1, 37 PC2, 38 PC3, 39 PC4, 40 PC5, 41 PC6, 42 PC7, 43 PG2, 44 PA7, 45 PA6, 46 PA5, 47 PA4, 48 PA3, 49 PA2, 50 PA1, 51 PA0, 52 VCC, 53 GND, 54 PF7, 55 PF6, 56 PF5, 57 PF4, 58 PF3, 59 PF2, 60 PF1, 61 PF0, 62 AREF, 63 GND, 64 AVCC

## ATmega649P-M
designator *  value ATmega649P-M  Reference: U
16MHz, 64kB Flash, 4kB SRAM, 2kB EEPROM, QFN-64; ki_keywords: AVR 8bit Microcontroller MegaAVR LCD PicoPower; ki_fp_filters: QFN*1EP*9x9mm*P0.5mm*; Footprint: Package_DFN_QFN:QFN-64-1EP_9x9mm_P0.5mm_EP5.4x5.4mm; Datasheet: http://ww1.microchip.com/downloads/en/DeviceDoc/atmel-8284-8-bit-avr-microcontroller-atmega169a_pa_329a_pa_3290a_pa_649a_p_6490a_p_datasheet.pdf; Description_: 16MHz, 64kB Flash, 4kB SRAM, 2kB EEPROM, QFN-64
pins: 1 LCDCAP, 2 PE0, 3 PE1, 4 PE2, 5 PE3, 6 PE4, 7 PE5, 8 PE6, 9 PE7, 10 PB0, 11 PB1, 12 PB2, 13 PB3, 14 PB4, 15 PB5, 16 PB6, 17 PB7, 18 PG3, 19 PG4, 20 PG5/~{{RESET}}, 21 VCC, 22 GND, 23 XTAL2, 24 XTAL1, 25 PD0, 26 PD1, 27 PD2, 28 PD3, 29 PD4, 30 PD5, 31 PD6, 32 PD7, 33 PG0, 34 PG1, 35 PC0, 36 PC1, 37 PC2, 38 PC3, 39 PC4, 40 PC5, 41 PC6, 42 PC7, 43 PG2, 44 PA7, 45 PA6, 46 PA5, 47 PA4, 48 PA3, 49 PA2, 50 PA1, 51 PA0, 52 VCC, 53 GND, 54 PF7, 55 PF6, 56 PF5, 57 PF4, 58 PF3, 59 PF2, 60 PF1, 61 PF0, 62 AREF, 63 GND, 64 AVCC, 65 GND

## ATmega649V-8A
designator *  value ATmega649V-8A  Reference: U
8MHz, 64kB Flash, 4kB SRAM, 2kB EEPROM, JTAG, TQFP-64; ki_keywords: AVR 8bit Microcontroller MegaAVR; ki_fp_filters: TQFP*14x14mm*P0.8mm*; Footprint: Package_QFP:TQFP-64_14x14mm_P0.8mm; Datasheet: http://ww1.microchip.com/downloads/en/DeviceDoc/doc2552.pdf; Description_: 8MHz, 64kB Flash, 4kB SRAM, 2kB EEPROM, JTAG, TQFP-64
pins: 1 LCDCAP, 2 PE0, 3 PE1, 4 PE2, 5 PE3, 6 PE4, 7 PE5, 8 PE6, 9 PE7, 10 PB0, 11 PB1, 12 PB2, 13 PB3, 14 PB4, 15 PB5, 16 PB6, 17 PB7, 18 PG3, 19 PG4, 20 PG5/~{{RESET}}, 21 VCC, 22 GND, 23 XTAL2, 24 XTAL1, 25 PD0, 26 PD1, 27 PD2, 28 PD3, 29 PD4, 30 PD5, 31 PD6, 32 PD7, 33 PG0, 34 PG1, 35 PC0, 36 PC1, 37 PC2, 38 PC3, 39 PC4, 40 PC5, 41 PC6, 42 PC7, 43 PG2, 44 PA7, 45 PA6, 46 PA5, 47 PA4, 48 PA3, 49 PA2, 50 PA1, 51 PA0, 52 VCC, 53 GND, 54 PF7, 55 PF6, 56 PF5, 57 PF4, 58 PF3, 59 PF2, 60 PF1, 61 PF0, 62 AREF, 63 GND, 64 AVCC

## ATmega649V-8M
designator *  value ATmega649V-8M  Reference: U
8MHz, 64kB Flash, 4kB SRAM, 2kB EEPROM, JTAG, QFN-64; ki_keywords: AVR 8bit Microcontroller MegaAVR; ki_fp_filters: QFN*1EP*9x9mm*P0.5mm*; Footprint: Package_DFN_QFN:QFN-64-1EP_9x9mm_P0.5mm_EP5.4x5.4mm; Datasheet: http://ww1.microchip.com/downloads/en/DeviceDoc/doc2552.pdf; Description_: 8MHz, 64kB Flash, 4kB SRAM, 2kB EEPROM, JTAG, QFN-64
pins: 1 LCDCAP, 2 PE0, 3 PE1, 4 PE2, 5 PE3, 6 PE4, 7 PE5, 8 PE6, 9 PE7, 10 PB0, 11 PB1, 12 PB2, 13 PB3, 14 PB4, 15 PB5, 16 PB6, 17 PB7, 18 PG3, 19 PG4, 20 PG5/~{{RESET}}, 21 VCC, 22 GND, 23 XTAL2, 24 XTAL1, 25 PD0, 26 PD1, 27 PD2, 28 PD3, 29 PD4, 30 PD5, 31 PD6, 32 PD7, 33 PG0, 34 PG1, 35 PC0, 36 PC1, 37 PC2, 38 PC3, 39 PC4, 40 PC5, 41 PC6, 42 PC7, 43 PG2, 44 PA7, 45 PA6, 46 PA5, 47 PA4, 48 PA3, 49 PA2, 50 PA1, 51 PA0, 52 VCC, 53 GND, 54 PF7, 55 PF6, 56 PF5, 57 PF4, 58 PF3, 59 PF2, 60 PF1, 61 PF0, 62 AREF, 63 GND, 64 AVCC, 65 GND

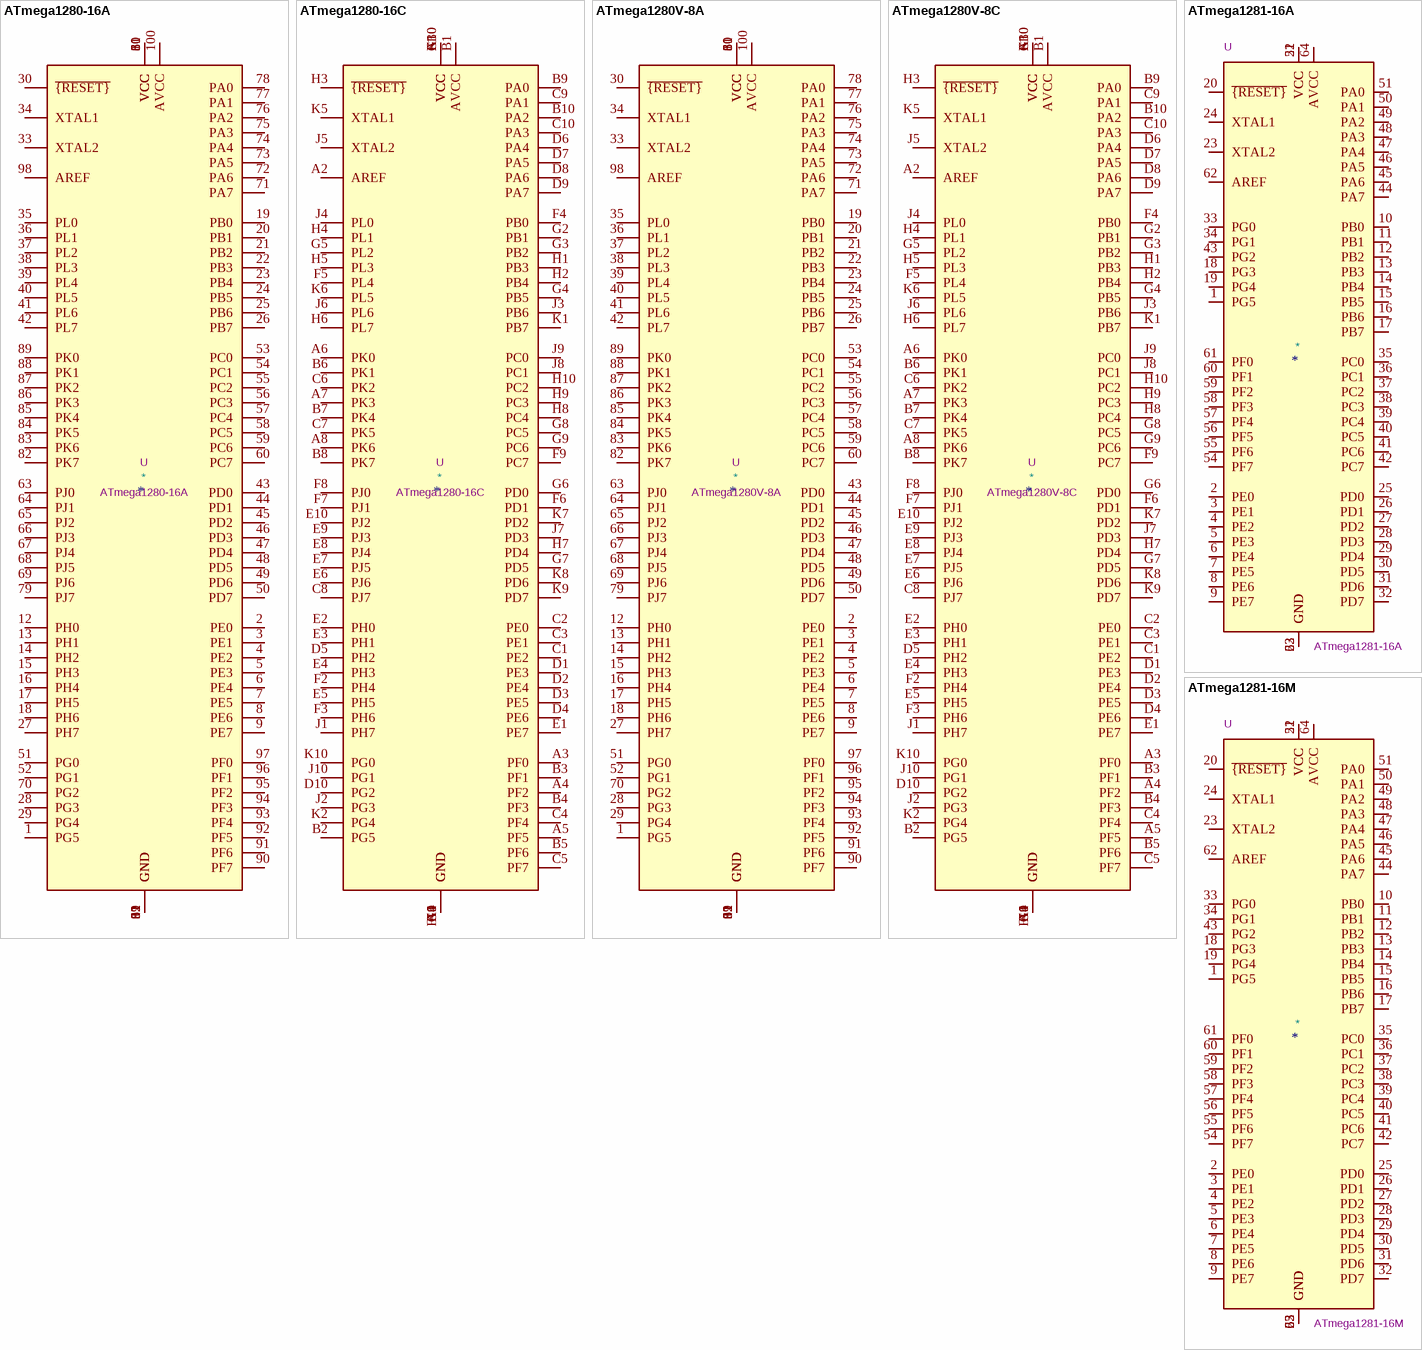
[diagram p22: symbols ATmega1280-16A to ATmega1281-16M]

## ATmega1280-16A
designator *  value ATmega1280-16A  Reference: U
16MHz, 128kB Flash, 8kB SRAM, 4kB EEPROM, JTAG, TQFP-100; ki_keywords: AVR 8bit Microcontroller MegaAVR; ki_fp_filters: TQFP*14x14mm*P0.5mm*; Footprint: Package_QFP:TQFP-100_14x14mm_P0.5mm; Datasheet: http://ww1.microchip.com/downloads/en/DeviceDoc/Atmel-2549-8-bit-AVR-Microcontroller-ATmega640-1280-1281-2560-2561_datasheet.pdf; Description_: 16MHz, 128kB Flash, 8kB SRAM, 4kB EEPROM, JTAG, TQFP-100
pins: 1 PG5, 2 PE0, 3 PE1, 4 PE2, 5 PE3, 6 PE4, 7 PE5, 8 PE6, 9 PE7, 10 VCC, 11 GND, 12 PH0, 13 PH1, 14 PH2, 15 PH3, 16 PH4, 17 PH5, 18 PH6, 19 PB0, 20 PB1, 21 PB2, 22 PB3, 23 PB4, 24 PB5, 25 PB6, 26 PB7, 27 PH7, 28 PG3, 29 PG4, 30 ~{{RESET}}, 31 VCC, 32 GND, 33 XTAL2, 34 XTAL1, 35 PL0, 36 PL1, 37 PL2, 38 PL3, 39 PL4, 40 PL5, 41 PL6, 42 PL7, 43 PD0, 44 PD1, 45 PD2, 46 PD3, 47 PD4, 48 PD5, 49 PD6, 50 PD7, 51 PG0, 52 PG1, 53 PC0, 54 PC1, 55 PC2, 56 PC3, 57 PC4, 58 PC5, 59 PC6, 60 PC7, 61 VCC, 62 GND, 63 PJ0, 64 PJ1, 65 PJ2, 66 PJ3, 67 PJ4, 68 PJ5, 69 PJ6, 70 PG2, 71 PA7, 72 PA6, 73 PA5, 74 PA4, 75 PA3, 76 PA2, 77 PA1, 78 PA0, 79 PJ7, 80 VCC, 81 GND, 82 PK7, 83 PK6, 84 PK5, 85 PK4, 86 PK3, 87 PK2, 88 PK1, 89 PK0, 90 PF7, 91 PF6, 92 PF5, 93 PF4, 94 PF3, 95 PF2, 96 PF1, 97 PF0, 98 AREF, 99 GND, 100 AVCC

## ATmega1280-16C
designator *  value ATmega1280-16C  Reference: U
16MHz, 128kB Flash, 8kB SRAM, 4kB EEPROM, JTAG, TFBGA-100; ki_keywords: AVR 8bit Microcontroller MegaAVR; ki_fp_filters: TFBGA*9.0x9.0mm*Layout10x10*P0.8mm*; Footprint: Package_BGA:TFBGA-100_9.0x9.0mm_Layout10x10_P0.8mm; Datasheet: http://ww1.microchip.com/downloads/en/DeviceDoc/Atmel-2549-8-bit-AVR-Microcontroller-ATmega640-1280-1281-2560-2561_datasheet.pdf; Description_: 16MHz, 128kB Flash, 8kB SRAM, 4kB EEPROM, JTAG, TFBGA-100
pins: A1 GND, A2 AREF, A3 PF0, A4 PF2, A5 PF5, A6 PK0, A7 PK3, A8 PK6, A9 GND, A10 VCC, B1 AVCC, B2 PG5, B3 PF1, B4 PF3, B5 PF6, B6 PK1, B7 PK4, B8 PK7, B9 PA0, B10 PA2, C1 PE2, C2 PE0, C3 PE1, C4 PF4, C5 PF7, C6 PK2, C7 PK5, C8 PJ7, C9 PA1, C10 PA3, D1 PE3, D2 PE4, D3 PE5, D4 PE6, D5 PH2, D6 PA4, D7 PA5, D8 PA6, D9 PA7, D10 PG2, E1 PE7, E2 PH0, E3 PH1, E4 PH3, E5 PH5, E6 PJ6, E7 PJ5, E8 PJ4, E9 PJ3, E10 PJ2, F1 VCC, F2 PH4, F3 PH6, F4 PB0, F5 PL4, F6 PD1, F7 PJ1, F8 PJ0, F9 PC7, F10 GND, G1 GND, G2 PB1, G3 PB2, G4 PB5, G5 PL2, G6 PD0, G7 PD5, G8 PC5, G9 PC6, G10 VCC, H1 PB3, H2 PB4, H3 ~{{RESET}}, H4 PL1, H5 PL3, H6 PL7, H7 PD4, H8 PC4, H9 PC3, H10 PC2, J1 PH7, J2 PG3, J3 PB6, J4 PL0, J5 XTAL2, J6 PL6, J7 PD3, J8 PC1, J9 PC0, J10 PG1, K1 PB7, K2 PG4, K3 VCC, K4 GND, K5 XTAL1, K6 PL5, K7 PD2, K8 PD6, K9 PD7, K10 PG0

## ATmega1280V-8A
designator *  value ATmega1280V-8A  Reference: U
8MHz, 128kB Flash, 8kB SRAM, 4kB EEPROM, JTAG, TQFP-100; ki_keywords: AVR 8bit Microcontroller MegaAVR; ki_fp_filters: TQFP*14x14mm*P0.5mm*; Footprint: Package_QFP:TQFP-100_14x14mm_P0.5mm; Datasheet: http://ww1.microchip.com/downloads/en/DeviceDoc/Atmel-2549-8-bit-AVR-Microcontroller-ATmega640-1280-1281-2560-2561_datasheet.pdf; Description_: 8MHz, 128kB Flash, 8kB SRAM, 4kB EEPROM, JTAG, TQFP-100
pins: 1 PG5, 2 PE0, 3 PE1, 4 PE2, 5 PE3, 6 PE4, 7 PE5, 8 PE6, 9 PE7, 10 VCC, 11 GND, 12 PH0, 13 PH1, 14 PH2, 15 PH3, 16 PH4, 17 PH5, 18 PH6, 19 PB0, 20 PB1, 21 PB2, 22 PB3, 23 PB4, 24 PB5, 25 PB6, 26 PB7, 27 PH7, 28 PG3, 29 PG4, 30 ~{{RESET}}, 31 VCC, 32 GND, 33 XTAL2, 34 XTAL1, 35 PL0, 36 PL1, 37 PL2, 38 PL3, 39 PL4, 40 PL5, 41 PL6, 42 PL7, 43 PD0, 44 PD1, 45 PD2, 46 PD3, 47 PD4, 48 PD5, 49 PD6, 50 PD7, 51 PG0, 52 PG1, 53 PC0, 54 PC1, 55 PC2, 56 PC3, 57 PC4, 58 PC5, 59 PC6, 60 PC7, 61 VCC, 62 GND, 63 PJ0, 64 PJ1, 65 PJ2, 66 PJ3, 67 PJ4, 68 PJ5, 69 PJ6, 70 PG2, 71 PA7, 72 PA6, 73 PA5, 74 PA4, 75 PA3, 76 PA2, 77 PA1, 78 PA0, 79 PJ7, 80 VCC, 81 GND, 82 PK7, 83 PK6, 84 PK5, 85 PK4, 86 PK3, 87 PK2, 88 PK1, 89 PK0, 90 PF7, 91 PF6, 92 PF5, 93 PF4, 94 PF3, 95 PF2, 96 PF1, 97 PF0, 98 AREF, 99 GND, 100 AVCC

## ATmega1280V-8C
designator *  value ATmega1280V-8C  Reference: U
8MHz, 128kB Flash, 8kB SRAM, 4kB EEPROM, JTAG, TFBGA-100; ki_keywords: AVR 8bit Microcontroller MegaAVR; ki_fp_filters: TFBGA*9.0x9.0mm*Layout10x10*P0.8mm*; Footprint: Package_BGA:TFBGA-100_9.0x9.0mm_Layout10x10_P0.8mm; Datasheet: http://ww1.microchip.com/downloads/en/DeviceDoc/Atmel-2549-8-bit-AVR-Microcontroller-ATmega640-1280-1281-2560-2561_datasheet.pdf; Description_: 8MHz, 128kB Flash, 8kB SRAM, 4kB EEPROM, JTAG, TFBGA-100
pins: A1 GND, A2 AREF, A3 PF0, A4 PF2, A5 PF5, A6 PK0, A7 PK3, A8 PK6, A9 GND, A10 VCC, B1 AVCC, B2 PG5, B3 PF1, B4 PF3, B5 PF6, B6 PK1, B7 PK4, B8 PK7, B9 PA0, B10 PA2, C1 PE2, C2 PE0, C3 PE1, C4 PF4, C5 PF7, C6 PK2, C7 PK5, C8 PJ7, C9 PA1, C10 PA3, D1 PE3, D2 PE4, D3 PE5, D4 PE6, D5 PH2, D6 PA4, D7 PA5, D8 PA6, D9 PA7, D10 PG2, E1 PE7, E2 PH0, E3 PH1, E4 PH3, E5 PH5, E6 PJ6, E7 PJ5, E8 PJ4, E9 PJ3, E10 PJ2, F1 VCC, F2 PH4, F3 PH6, F4 PB0, F5 PL4, F6 PD1, F7 PJ1, F8 PJ0, F9 PC7, F10 GND, G1 GND, G2 PB1, G3 PB2, G4 PB5, G5 PL2, G6 PD0, G7 PD5, G8 PC5, G9 PC6, G10 VCC, H1 PB3, H2 PB4, H3 ~{{RESET}}, H4 PL1, H5 PL3, H6 PL7, H7 PD4, H8 PC4, H9 PC3, H10 PC2, J1 PH7, J2 PG3, J3 PB6, J4 PL0, J5 XTAL2, J6 PL6, J7 PD3, J8 PC1, J9 PC0, J10 PG1, K1 PB7, K2 PG4, K3 VCC, K4 GND, K5 XTAL1, K6 PL5, K7 PD2, K8 PD6, K9 PD7, K10 PG0

## ATmega1281-16A
designator *  value ATmega1281-16A  Reference: U
16MHz, 128kB Flash, 8kB SRAM, 4kB EEPROM, JTAG, TQFP-64; ki_keywords: AVR 8bit Microcontroller MegaAVR; ki_fp_filters: TQFP*14x14mm*P0.8mm*; Footprint: Package_QFP:TQFP-64_14x14mm_P0.8mm; Datasheet: http://ww1.microchip.com/downloads/en/DeviceDoc/Atmel-2549-8-bit-AVR-Microcontroller-ATmega640-1280-1281-2560-2561_datasheet.pdf; Description_: 16MHz, 128kB Flash, 8kB SRAM, 4kB EEPROM, JTAG, TQFP-64
pins: 1 PG5, 2 PE0, 3 PE1, 4 PE2, 5 PE3, 6 PE4, 7 PE5, 8 PE6, 9 PE7, 10 PB0, 11 PB1, 12 PB2, 13 PB3, 14 PB4, 15 PB5, 16 PB6, 17 PB7, 18 PG3, 19 PG4, 20 ~{{RESET}}, 21 VCC, 22 GND, 23 XTAL2, 24 XTAL1, 25 PD0, 26 PD1, 27 PD2, 28 PD3, 29 PD4, 30 PD5, 31 PD6, 32 PD7, 33 PG0, 34 PG1, 35 PC0, 36 PC1, 37 PC2, 38 PC3, 39 PC4, 40 PC5, 41 PC6, 42 PC7, 43 PG2, 44 PA7, 45 PA6, 46 PA5, 47 PA4, 48 PA3, 49 PA2, 50 PA1, 51 PA0, 52 VCC, 53 GND, 54 PF7, 55 PF6, 56 PF5, 57 PF4, 58 PF3, 59 PF2, 60 PF1, 61 PF0, 62 AREF, 63 GND, 64 AVCC

## ATmega1281-16M
designator *  value ATmega1281-16M  Reference: U
16MHz, 128kB Flash, 8kB SRAM, 4kB EEPROM, JTAG, QFN-64; ki_keywords: AVR 8bit Microcontroller MegaAVR; ki_fp_filters: QFN*1EP*9x9mm*P0.5mm*; Footprint: Package_DFN_QFN:QFN-64-1EP_9x9mm_P0.5mm_EP7.65x7.65mm; Datasheet: http://ww1.microchip.com/downloads/en/DeviceDoc/Atmel-2549-8-bit-AVR-Microcontroller-ATmega640-1280-1281-2560-2561_datasheet.pdf; Description_: 16MHz, 128kB Flash, 8kB SRAM, 4kB EEPROM, JTAG, QFN-64
pins: 1 PG5, 2 PE0, 3 PE1, 4 PE2, 5 PE3, 6 PE4, 7 PE5, 8 PE6, 9 PE7, 10 PB0, 11 PB1, 12 PB2, 13 PB3, 14 PB4, 15 PB5, 16 PB6, 17 PB7, 18 PG3, 19 PG4, 20 ~{{RESET}}, 21 VCC, 22 GND, 23 XTAL2, 24 XTAL1, 25 PD0, 26 PD1, 27 PD2, 28 PD3, 29 PD4, 30 PD5, 31 PD6, 32 PD7, 33 PG0, 34 PG1, 35 PC0, 36 PC1, 37 PC2, 38 PC3, 39 PC4, 40 PC5, 41 PC6, 42 PC7, 43 PG2, 44 PA7, 45 PA6, 46 PA5, 47 PA4, 48 PA3, 49 PA2, 50 PA1, 51 PA0, 52 VCC, 53 GND, 54 PF7, 55 PF6, 56 PF5, 57 PF4, 58 PF3, 59 PF2, 60 PF1, 61 PF0, 62 AREF, 63 GND, 64 AVCC, 65 GND

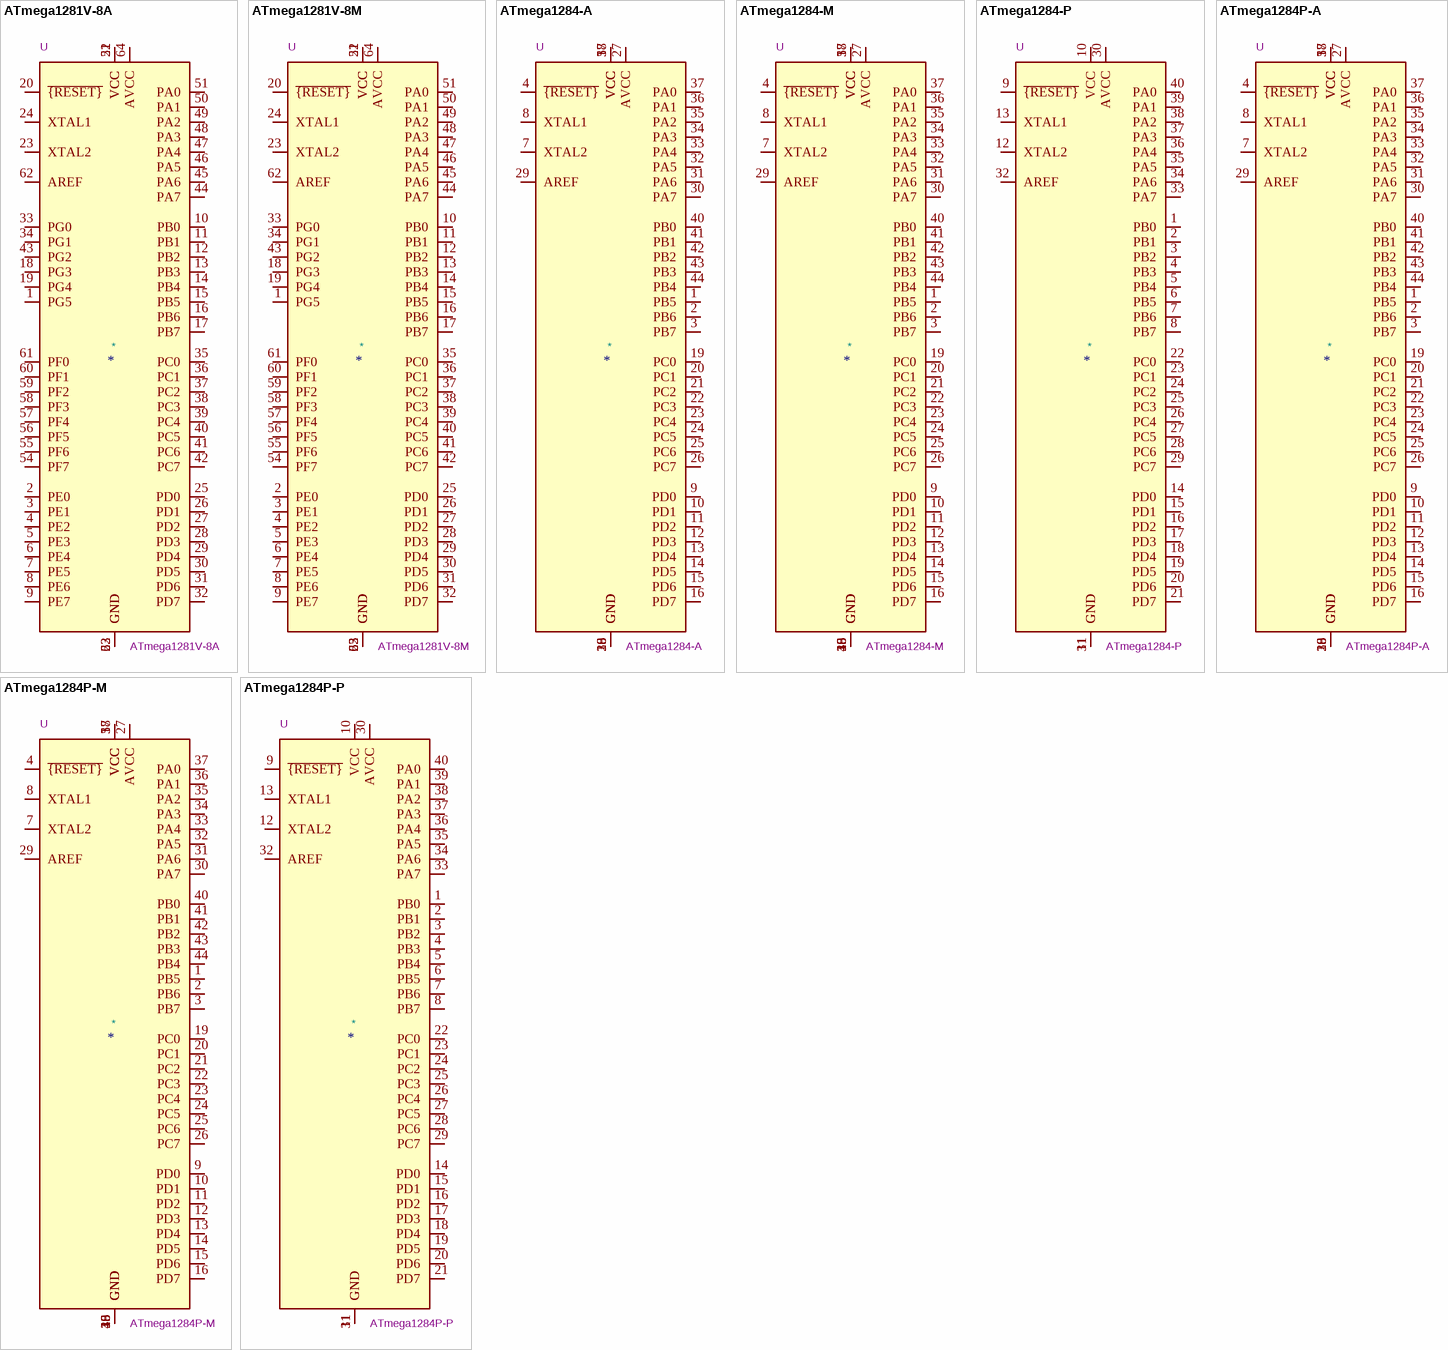
[diagram p23: symbols ATmega1281V-8A to ATmega1284P-P]

## ATmega1281V-8A
designator *  value ATmega1281V-8A  Reference: U
8MHz, 128kB Flash, 8kB SRAM, 4kB EEPROM, JTAG, TQFP-64; ki_keywords: AVR 8bit Microcontroller MegaAVR; ki_fp_filters: TQFP*14x14mm*P0.8mm*; Footprint: Package_QFP:TQFP-64_14x14mm_P0.8mm; Datasheet: http://ww1.microchip.com/downloads/en/DeviceDoc/Atmel-2549-8-bit-AVR-Microcontroller-ATmega640-1280-1281-2560-2561_datasheet.pdf; Description_: 8MHz, 128kB Flash, 8kB SRAM, 4kB EEPROM, JTAG, TQFP-64
pins: 1 PG5, 2 PE0, 3 PE1, 4 PE2, 5 PE3, 6 PE4, 7 PE5, 8 PE6, 9 PE7, 10 PB0, 11 PB1, 12 PB2, 13 PB3, 14 PB4, 15 PB5, 16 PB6, 17 PB7, 18 PG3, 19 PG4, 20 ~{{RESET}}, 21 VCC, 22 GND, 23 XTAL2, 24 XTAL1, 25 PD0, 26 PD1, 27 PD2, 28 PD3, 29 PD4, 30 PD5, 31 PD6, 32 PD7, 33 PG0, 34 PG1, 35 PC0, 36 PC1, 37 PC2, 38 PC3, 39 PC4, 40 PC5, 41 PC6, 42 PC7, 43 PG2, 44 PA7, 45 PA6, 46 PA5, 47 PA4, 48 PA3, 49 PA2, 50 PA1, 51 PA0, 52 VCC, 53 GND, 54 PF7, 55 PF6, 56 PF5, 57 PF4, 58 PF3, 59 PF2, 60 PF1, 61 PF0, 62 AREF, 63 GND, 64 AVCC

## ATmega1281V-8M
designator *  value ATmega1281V-8M  Reference: U
8MHz, 128kB Flash, 8kB SRAM, 4kB EEPROM, JTAG, QFN-64; ki_keywords: AVR 8bit Microcontroller MegaAVR; ki_fp_filters: QFN*1EP*9x9mm*P0.5mm*; Footprint: Package_DFN_QFN:QFN-64-1EP_9x9mm_P0.5mm_EP7.65x7.65mm; Datasheet: http://ww1.microchip.com/downloads/en/DeviceDoc/Atmel-2549-8-bit-AVR-Microcontroller-ATmega640-1280-1281-2560-2561_datasheet.pdf; Description_: 8MHz, 128kB Flash, 8kB SRAM, 4kB EEPROM, JTAG, QFN-64
pins: 1 PG5, 2 PE0, 3 PE1, 4 PE2, 5 PE3, 6 PE4, 7 PE5, 8 PE6, 9 PE7, 10 PB0, 11 PB1, 12 PB2, 13 PB3, 14 PB4, 15 PB5, 16 PB6, 17 PB7, 18 PG3, 19 PG4, 20 ~{{RESET}}, 21 VCC, 22 GND, 23 XTAL2, 24 XTAL1, 25 PD0, 26 PD1, 27 PD2, 28 PD3, 29 PD4, 30 PD5, 31 PD6, 32 PD7, 33 PG0, 34 PG1, 35 PC0, 36 PC1, 37 PC2, 38 PC3, 39 PC4, 40 PC5, 41 PC6, 42 PC7, 43 PG2, 44 PA7, 45 PA6, 46 PA5, 47 PA4, 48 PA3, 49 PA2, 50 PA1, 51 PA0, 52 VCC, 53 GND, 54 PF7, 55 PF6, 56 PF5, 57 PF4, 58 PF3, 59 PF2, 60 PF1, 61 PF0, 62 AREF, 63 GND, 64 AVCC, 65 GND

## ATmega1284-A
designator *  value ATmega1284-A  Reference: U
20MHz, 128kB Flash, 16kB SRAM, 4kB EEPROM, JTAG, TQFP-44; ki_keywords: AVR 8bit Microcontroller MegaAVR; ki_fp_filters: TQFP*10x10mm*P0.8mm*; Footprint: Package_QFP:TQFP-44_10x10mm_P0.8mm; Datasheet: http://ww1.microchip.com/downloads/en/DeviceDoc/Atmel-8272-8-bit-AVR-microcontroller-ATmega164A_PA-324A_PA-644A_PA-1284_P_datasheet.pdf; Description_: 20MHz, 128kB Flash, 16kB SRAM, 4kB EEPROM, JTAG, TQFP-44
pins: 1 PB5, 2 PB6, 3 PB7, 4 ~{{RESET}}, 5 VCC, 6 GND, 7 XTAL2, 8 XTAL1, 9 PD0, 10 PD1, 11 PD2, 12 PD3, 13 PD4, 14 PD5, 15 PD6, 16 PD7, 17 VCC, 18 GND, 19 PC0, 20 PC1, 21 PC2, 22 PC3, 23 PC4, 24 PC5, 25 PC6, 26 PC7, 27 AVCC, 28 GND, 29 AREF, 30 PA7, 31 PA6, 32 PA5, 33 PA4, 34 PA3, 35 PA2, 36 PA1, 37 PA0, 38 VCC, 39 GND, 40 PB0, 41 PB1, 42 PB2, 43 PB3, 44 PB4

## ATmega1284-M
designator *  value ATmega1284-M  Reference: U
20MHz, 128kB Flash, 16kB SRAM, 4kB EEPROM, JTAG, QFN-44; ki_keywords: AVR 8bit Microcontroller MegaAVR; ki_fp_filters: QFN*1EP*7x7mm*P0.5mm*; Footprint: Package_DFN_QFN:QFN-44-1EP_7x7mm_P0.5mm_EP5.2x5.2mm; Datasheet: http://ww1.microchip.com/downloads/en/DeviceDoc/Atmel-8272-8-bit-AVR-microcontroller-ATmega164A_PA-324A_PA-644A_PA-1284_P_datasheet.pdf; Description_: 20MHz, 128kB Flash, 16kB SRAM, 4kB EEPROM, JTAG, QFN-44
pins: 1 PB5, 2 PB6, 3 PB7, 4 ~{{RESET}}, 5 VCC, 6 GND, 7 XTAL2, 8 XTAL1, 9 PD0, 10 PD1, 11 PD2, 12 PD3, 13 PD4, 14 PD5, 15 PD6, 16 PD7, 17 VCC, 18 GND, 19 PC0, 20 PC1, 21 PC2, 22 PC3, 23 PC4, 24 PC5, 25 PC6, 26 PC7, 27 AVCC, 28 GND, 29 AREF, 30 PA7, 31 PA6, 32 PA5, 33 PA4, 34 PA3, 35 PA2, 36 PA1, 37 PA0, 38 VCC, 39 GND, 40 PB0, 41 PB1, 42 PB2, 43 PB3, 44 PB4, 45 GND

## ATmega1284-P
designator *  value ATmega1284-P  Reference: U
20MHz, 128kB Flash, 16kB SRAM, 4kB EEPROM, JTAG, DIP-40; ki_keywords: AVR 8bit Microcontroller MegaAVR; ki_fp_filters: DIP*W15.24mm*; Footprint: Package_DIP:DIP-40_W15.24mm; Datasheet: http://ww1.microchip.com/downloads/en/DeviceDoc/Atmel-8272-8-bit-AVR-microcontroller-ATmega164A_PA-324A_PA-644A_PA-1284_P_datasheet.pdf; Description_: 20MHz, 128kB Flash, 16kB SRAM, 4kB EEPROM, JTAG, DIP-40
pins: 1 PB0, 2 PB1, 3 PB2, 4 PB3, 5 PB4, 6 PB5, 7 PB6, 8 PB7, 9 ~{{RESET}}, 10 VCC, 11 GND, 12 XTAL2, 13 XTAL1, 14 PD0, 15 PD1, 16 PD2, 17 PD3, 18 PD4, 19 PD5, 20 PD6, 21 PD7, 22 PC0, 23 PC1, 24 PC2, 25 PC3, 26 PC4, 27 PC5, 28 PC6, 29 PC7, 30 AVCC, 31 GND, 32 AREF, 33 PA7, 34 PA6, 35 PA5, 36 PA4, 37 PA3, 38 PA2, 39 PA1, 40 PA0

## ATmega1284P-A
designator *  value ATmega1284P-A  Reference: U
20MHz, 128kB Flash, 16kB SRAM, 4kB EEPROM, JTAG, TQFP-44; ki_keywords: AVR 8bit Microcontroller MegaAVR PicoPower; ki_fp_filters: TQFP*10x10mm*P0.8mm*; Footprint: Package_QFP:TQFP-44_10x10mm_P0.8mm; Datasheet: http://ww1.microchip.com/downloads/en/DeviceDoc/Atmel-8272-8-bit-AVR-microcontroller-ATmega164A_PA-324A_PA-644A_PA-1284_P_datasheet.pdf; Description_: 20MHz, 128kB Flash, 16kB SRAM, 4kB EEPROM, JTAG, TQFP-44
pins: 1 PB5, 2 PB6, 3 PB7, 4 ~{{RESET}}, 5 VCC, 6 GND, 7 XTAL2, 8 XTAL1, 9 PD0, 10 PD1, 11 PD2, 12 PD3, 13 PD4, 14 PD5, 15 PD6, 16 PD7, 17 VCC, 18 GND, 19 PC0, 20 PC1, 21 PC2, 22 PC3, 23 PC4, 24 PC5, 25 PC6, 26 PC7, 27 AVCC, 28 GND, 29 AREF, 30 PA7, 31 PA6, 32 PA5, 33 PA4, 34 PA3, 35 PA2, 36 PA1, 37 PA0, 38 VCC, 39 GND, 40 PB0, 41 PB1, 42 PB2, 43 PB3, 44 PB4

## ATmega1284P-M
designator *  value ATmega1284P-M  Reference: U
20MHz, 128kB Flash, 16kB SRAM, 4kB EEPROM, JTAG, QFN-44; ki_keywords: AVR 8bit Microcontroller MegaAVR PicoPower; ki_fp_filters: QFN*1EP*7x7mm*P0.5mm*; Footprint: Package_DFN_QFN:QFN-44-1EP_7x7mm_P0.5mm_EP5.2x5.2mm; Datasheet: http://ww1.microchip.com/downloads/en/DeviceDoc/Atmel-8272-8-bit-AVR-microcontroller-ATmega164A_PA-324A_PA-644A_PA-1284_P_datasheet.pdf; Description_: 20MHz, 128kB Flash, 16kB SRAM, 4kB EEPROM, JTAG, QFN-44
pins: 1 PB5, 2 PB6, 3 PB7, 4 ~{{RESET}}, 5 VCC, 6 GND, 7 XTAL2, 8 XTAL1, 9 PD0, 10 PD1, 11 PD2, 12 PD3, 13 PD4, 14 PD5, 15 PD6, 16 PD7, 17 VCC, 18 GND, 19 PC0, 20 PC1, 21 PC2, 22 PC3, 23 PC4, 24 PC5, 25 PC6, 26 PC7, 27 AVCC, 28 GND, 29 AREF, 30 PA7, 31 PA6, 32 PA5, 33 PA4, 34 PA3, 35 PA2, 36 PA1, 37 PA0, 38 VCC, 39 GND, 40 PB0, 41 PB1, 42 PB2, 43 PB3, 44 PB4, 45 GND

## ATmega1284P-P
designator *  value ATmega1284P-P  Reference: U
20MHz, 128kB Flash, 16kB SRAM, 4kB EEPROM, JTAG, DIP-40; ki_keywords: AVR 8bit Microcontroller MegaAVR PicoPower; ki_fp_filters: DIP*W15.24mm*; Footprint: Package_DIP:DIP-40_W15.24mm; Datasheet: http://ww1.microchip.com/downloads/en/DeviceDoc/Atmel-8272-8-bit-AVR-microcontroller-ATmega164A_PA-324A_PA-644A_PA-1284_P_datasheet.pdf; Description_: 20MHz, 128kB Flash, 16kB SRAM, 4kB EEPROM, JTAG, DIP-40
pins: 1 PB0, 2 PB1, 3 PB2, 4 PB3, 5 PB4, 6 PB5, 7 PB6, 8 PB7, 9 ~{{RESET}}, 10 VCC, 11 GND, 12 XTAL2, 13 XTAL1, 14 PD0, 15 PD1, 16 PD2, 17 PD3, 18 PD4, 19 PD5, 20 PD6, 21 PD7, 22 PC0, 23 PC1, 24 PC2, 25 PC3, 26 PC4, 27 PC5, 28 PC6, 29 PC7, 30 AVCC, 31 GND, 32 AREF, 33 PA7, 34 PA6, 35 PA5, 36 PA4, 37 PA3, 38 PA2, 39 PA1, 40 PA0

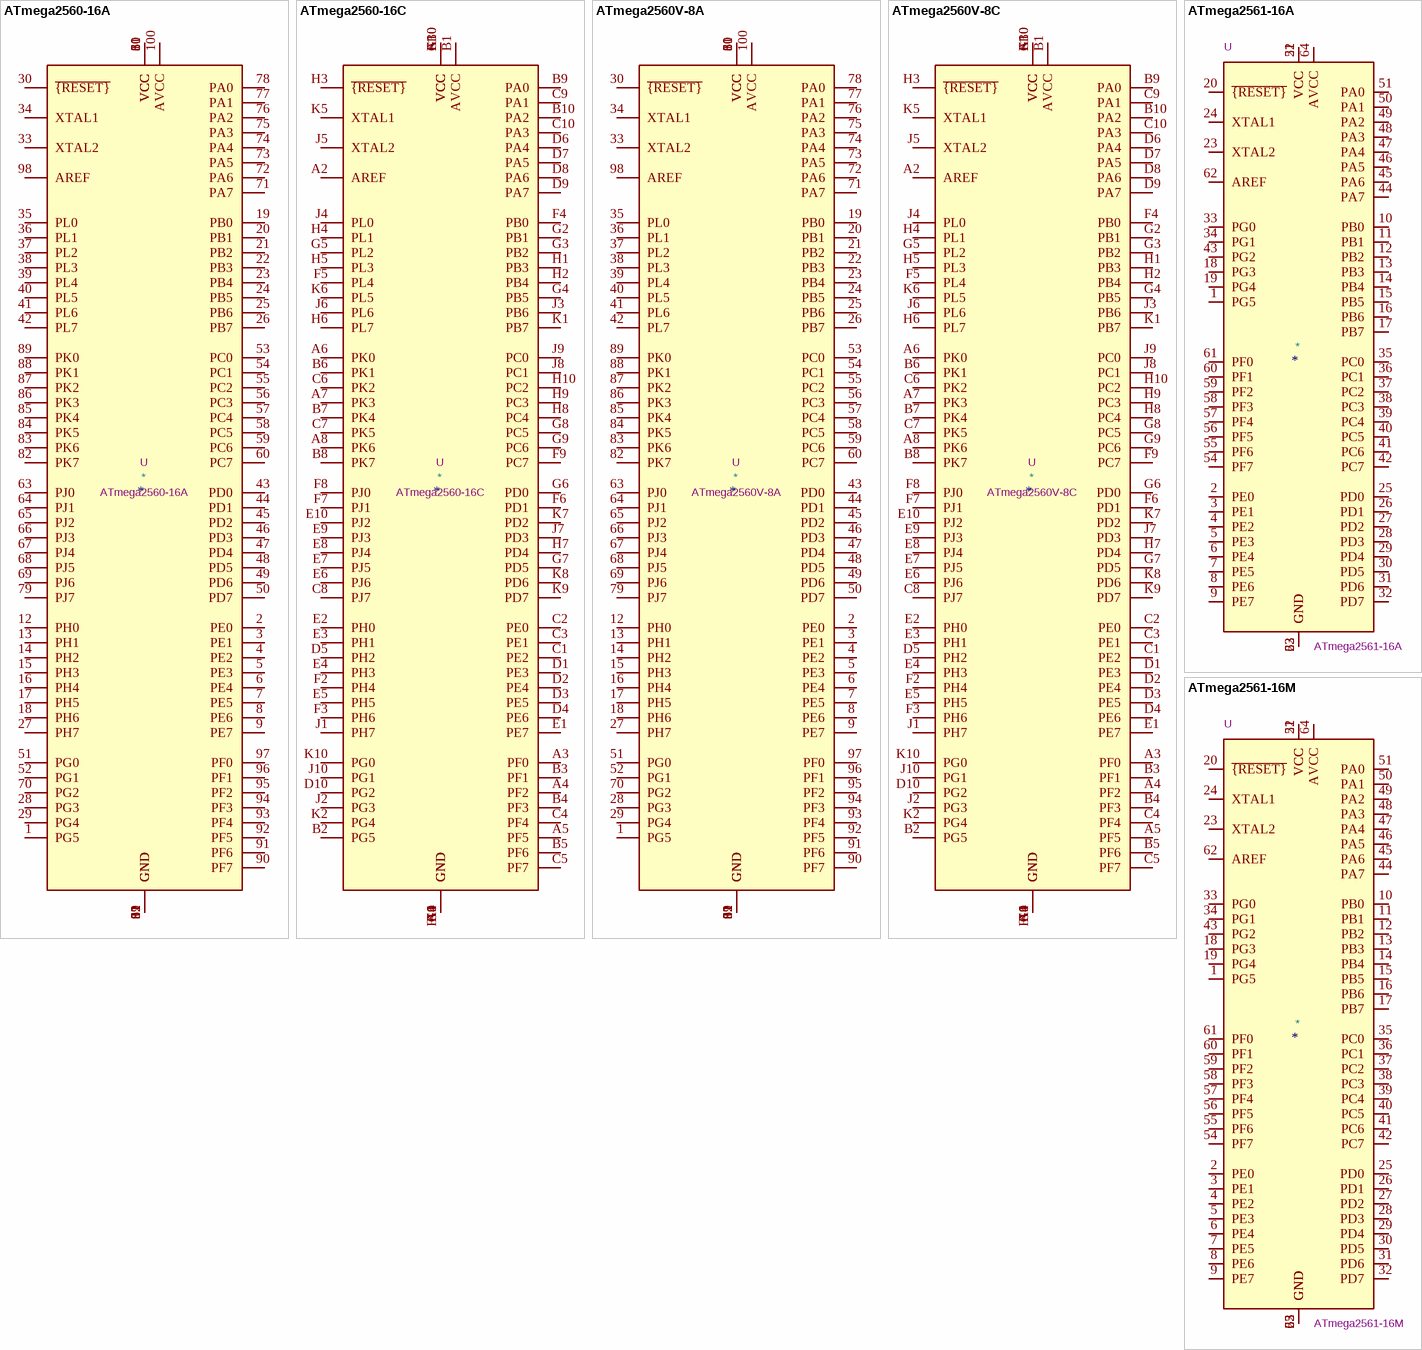
[diagram p24: symbols ATmega2560-16A to ATmega2561-16M]

## ATmega2560-16A
designator *  value ATmega2560-16A  Reference: U
16MHz, 256kB Flash, 8kB SRAM, 4kB EEPROM, JTAG, TQFP-100; ki_keywords: AVR 8bit Microcontroller MegaAVR; ki_fp_filters: TQFP*14x14mm*P0.5mm*; Footprint: Package_QFP:TQFP-100_14x14mm_P0.5mm; Datasheet: http://ww1.microchip.com/downloads/en/DeviceDoc/Atmel-2549-8-bit-AVR-Microcontroller-ATmega640-1280-1281-2560-2561_datasheet.pdf; Description_: 16MHz, 256kB Flash, 8kB SRAM, 4kB EEPROM, JTAG, TQFP-100
pins: 1 PG5, 2 PE0, 3 PE1, 4 PE2, 5 PE3, 6 PE4, 7 PE5, 8 PE6, 9 PE7, 10 VCC, 11 GND, 12 PH0, 13 PH1, 14 PH2, 15 PH3, 16 PH4, 17 PH5, 18 PH6, 19 PB0, 20 PB1, 21 PB2, 22 PB3, 23 PB4, 24 PB5, 25 PB6, 26 PB7, 27 PH7, 28 PG3, 29 PG4, 30 ~{{RESET}}, 31 VCC, 32 GND, 33 XTAL2, 34 XTAL1, 35 PL0, 36 PL1, 37 PL2, 38 PL3, 39 PL4, 40 PL5, 41 PL6, 42 PL7, 43 PD0, 44 PD1, 45 PD2, 46 PD3, 47 PD4, 48 PD5, 49 PD6, 50 PD7, 51 PG0, 52 PG1, 53 PC0, 54 PC1, 55 PC2, 56 PC3, 57 PC4, 58 PC5, 59 PC6, 60 PC7, 61 VCC, 62 GND, 63 PJ0, 64 PJ1, 65 PJ2, 66 PJ3, 67 PJ4, 68 PJ5, 69 PJ6, 70 PG2, 71 PA7, 72 PA6, 73 PA5, 74 PA4, 75 PA3, 76 PA2, 77 PA1, 78 PA0, 79 PJ7, 80 VCC, 81 GND, 82 PK7, 83 PK6, 84 PK5, 85 PK4, 86 PK3, 87 PK2, 88 PK1, 89 PK0, 90 PF7, 91 PF6, 92 PF5, 93 PF4, 94 PF3, 95 PF2, 96 PF1, 97 PF0, 98 AREF, 99 GND, 100 AVCC

## ATmega2560-16C
designator *  value ATmega2560-16C  Reference: U
16MHz, 256kB Flash, 8kB SRAM, 4kB EEPROM, JTAG, TFBGA-100; ki_keywords: AVR 8bit Microcontroller MegaAVR; ki_fp_filters: TFBGA*9.0x9.0mm*Layout10x10*P0.8mm*; Footprint: Package_BGA:TFBGA-100_9.0x9.0mm_Layout10x10_P0.8mm; Datasheet: http://ww1.microchip.com/downloads/en/DeviceDoc/Atmel-2549-8-bit-AVR-Microcontroller-ATmega640-1280-1281-2560-2561_datasheet.pdf; Description_: 16MHz, 256kB Flash, 8kB SRAM, 4kB EEPROM, JTAG, TFBGA-100
pins: A1 GND, A2 AREF, A3 PF0, A4 PF2, A5 PF5, A6 PK0, A7 PK3, A8 PK6, A9 GND, A10 VCC, B1 AVCC, B2 PG5, B3 PF1, B4 PF3, B5 PF6, B6 PK1, B7 PK4, B8 PK7, B9 PA0, B10 PA2, C1 PE2, C2 PE0, C3 PE1, C4 PF4, C5 PF7, C6 PK2, C7 PK5, C8 PJ7, C9 PA1, C10 PA3, D1 PE3, D2 PE4, D3 PE5, D4 PE6, D5 PH2, D6 PA4, D7 PA5, D8 PA6, D9 PA7, D10 PG2, E1 PE7, E2 PH0, E3 PH1, E4 PH3, E5 PH5, E6 PJ6, E7 PJ5, E8 PJ4, E9 PJ3, E10 PJ2, F1 VCC, F2 PH4, F3 PH6, F4 PB0, F5 PL4, F6 PD1, F7 PJ1, F8 PJ0, F9 PC7, F10 GND, G1 GND, G2 PB1, G3 PB2, G4 PB5, G5 PL2, G6 PD0, G7 PD5, G8 PC5, G9 PC6, G10 VCC, H1 PB3, H2 PB4, H3 ~{{RESET}}, H4 PL1, H5 PL3, H6 PL7, H7 PD4, H8 PC4, H9 PC3, H10 PC2, J1 PH7, J2 PG3, J3 PB6, J4 PL0, J5 XTAL2, J6 PL6, J7 PD3, J8 PC1, J9 PC0, J10 PG1, K1 PB7, K2 PG4, K3 VCC, K4 GND, K5 XTAL1, K6 PL5, K7 PD2, K8 PD6, K9 PD7, K10 PG0

## ATmega2560V-8A
designator *  value ATmega2560V-8A  Reference: U
8MHz, 256kB Flash, 8kB SRAM, 4kB EEPROM, JTAG, TQFP-100; ki_keywords: AVR 8bit Microcontroller MegaAVR; ki_fp_filters: TQFP*14x14mm*P0.5mm*; Footprint: Package_QFP:TQFP-100_14x14mm_P0.5mm; Datasheet: http://ww1.microchip.com/downloads/en/DeviceDoc/Atmel-2549-8-bit-AVR-Microcontroller-ATmega640-1280-1281-2560-2561_datasheet.pdf; Description_: 8MHz, 256kB Flash, 8kB SRAM, 4kB EEPROM, JTAG, TQFP-100
pins: 1 PG5, 2 PE0, 3 PE1, 4 PE2, 5 PE3, 6 PE4, 7 PE5, 8 PE6, 9 PE7, 10 VCC, 11 GND, 12 PH0, 13 PH1, 14 PH2, 15 PH3, 16 PH4, 17 PH5, 18 PH6, 19 PB0, 20 PB1, 21 PB2, 22 PB3, 23 PB4, 24 PB5, 25 PB6, 26 PB7, 27 PH7, 28 PG3, 29 PG4, 30 ~{{RESET}}, 31 VCC, 32 GND, 33 XTAL2, 34 XTAL1, 35 PL0, 36 PL1, 37 PL2, 38 PL3, 39 PL4, 40 PL5, 41 PL6, 42 PL7, 43 PD0, 44 PD1, 45 PD2, 46 PD3, 47 PD4, 48 PD5, 49 PD6, 50 PD7, 51 PG0, 52 PG1, 53 PC0, 54 PC1, 55 PC2, 56 PC3, 57 PC4, 58 PC5, 59 PC6, 60 PC7, 61 VCC, 62 GND, 63 PJ0, 64 PJ1, 65 PJ2, 66 PJ3, 67 PJ4, 68 PJ5, 69 PJ6, 70 PG2, 71 PA7, 72 PA6, 73 PA5, 74 PA4, 75 PA3, 76 PA2, 77 PA1, 78 PA0, 79 PJ7, 80 VCC, 81 GND, 82 PK7, 83 PK6, 84 PK5, 85 PK4, 86 PK3, 87 PK2, 88 PK1, 89 PK0, 90 PF7, 91 PF6, 92 PF5, 93 PF4, 94 PF3, 95 PF2, 96 PF1, 97 PF0, 98 AREF, 99 GND, 100 AVCC

## ATmega2560V-8C
designator *  value ATmega2560V-8C  Reference: U
8MHz, 256kB Flash, 8kB SRAM, 4kB EEPROM, JTAG, TFBGA-100; ki_keywords: AVR 8bit Microcontroller MegaAVR; ki_fp_filters: TFBGA*9.0x9.0mm*Layout10x10*P0.8mm*; Footprint: Package_BGA:TFBGA-100_9.0x9.0mm_Layout10x10_P0.8mm; Datasheet: http://ww1.microchip.com/downloads/en/DeviceDoc/Atmel-2549-8-bit-AVR-Microcontroller-ATmega640-1280-1281-2560-2561_datasheet.pdf; Description_: 8MHz, 256kB Flash, 8kB SRAM, 4kB EEPROM, JTAG, TFBGA-100
pins: A1 GND, A2 AREF, A3 PF0, A4 PF2, A5 PF5, A6 PK0, A7 PK3, A8 PK6, A9 GND, A10 VCC, B1 AVCC, B2 PG5, B3 PF1, B4 PF3, B5 PF6, B6 PK1, B7 PK4, B8 PK7, B9 PA0, B10 PA2, C1 PE2, C2 PE0, C3 PE1, C4 PF4, C5 PF7, C6 PK2, C7 PK5, C8 PJ7, C9 PA1, C10 PA3, D1 PE3, D2 PE4, D3 PE5, D4 PE6, D5 PH2, D6 PA4, D7 PA5, D8 PA6, D9 PA7, D10 PG2, E1 PE7, E2 PH0, E3 PH1, E4 PH3, E5 PH5, E6 PJ6, E7 PJ5, E8 PJ4, E9 PJ3, E10 PJ2, F1 VCC, F2 PH4, F3 PH6, F4 PB0, F5 PL4, F6 PD1, F7 PJ1, F8 PJ0, F9 PC7, F10 GND, G1 GND, G2 PB1, G3 PB2, G4 PB5, G5 PL2, G6 PD0, G7 PD5, G8 PC5, G9 PC6, G10 VCC, H1 PB3, H2 PB4, H3 ~{{RESET}}, H4 PL1, H5 PL3, H6 PL7, H7 PD4, H8 PC4, H9 PC3, H10 PC2, J1 PH7, J2 PG3, J3 PB6, J4 PL0, J5 XTAL2, J6 PL6, J7 PD3, J8 PC1, J9 PC0, J10 PG1, K1 PB7, K2 PG4, K3 VCC, K4 GND, K5 XTAL1, K6 PL5, K7 PD2, K8 PD6, K9 PD7, K10 PG0

## ATmega2561-16A
designator *  value ATmega2561-16A  Reference: U
16MHz, 256kB Flash, 8kB SRAM, 4kB EEPROM, JTAG, TQFP-64; ki_keywords: AVR 8bit Microcontroller MegaAVR; ki_fp_filters: TQFP*14x14mm*P0.8mm*; Footprint: Package_QFP:TQFP-64_14x14mm_P0.8mm; Datasheet: http://ww1.microchip.com/downloads/en/DeviceDoc/Atmel-2549-8-bit-AVR-Microcontroller-ATmega640-1280-1281-2560-2561_datasheet.pdf; Description_: 16MHz, 256kB Flash, 8kB SRAM, 4kB EEPROM, JTAG, TQFP-64
pins: 1 PG5, 2 PE0, 3 PE1, 4 PE2, 5 PE3, 6 PE4, 7 PE5, 8 PE6, 9 PE7, 10 PB0, 11 PB1, 12 PB2, 13 PB3, 14 PB4, 15 PB5, 16 PB6, 17 PB7, 18 PG3, 19 PG4, 20 ~{{RESET}}, 21 VCC, 22 GND, 23 XTAL2, 24 XTAL1, 25 PD0, 26 PD1, 27 PD2, 28 PD3, 29 PD4, 30 PD5, 31 PD6, 32 PD7, 33 PG0, 34 PG1, 35 PC0, 36 PC1, 37 PC2, 38 PC3, 39 PC4, 40 PC5, 41 PC6, 42 PC7, 43 PG2, 44 PA7, 45 PA6, 46 PA5, 47 PA4, 48 PA3, 49 PA2, 50 PA1, 51 PA0, 52 VCC, 53 GND, 54 PF7, 55 PF6, 56 PF5, 57 PF4, 58 PF3, 59 PF2, 60 PF1, 61 PF0, 62 AREF, 63 GND, 64 AVCC

## ATmega2561-16M
designator *  value ATmega2561-16M  Reference: U
16MHz, 256kB Flash, 8kB SRAM, 4kB EEPROM, JTAG, QFN-64; ki_keywords: AVR 8bit Microcontroller MegaAVR; ki_fp_filters: QFN*1EP*9x9mm*P0.5mm*; Footprint: Package_DFN_QFN:QFN-64-1EP_9x9mm_P0.5mm_EP7.65x7.65mm; Datasheet: http://ww1.microchip.com/downloads/en/DeviceDoc/Atmel-2549-8-bit-AVR-Microcontroller-ATmega640-1280-1281-2560-2561_datasheet.pdf; Description_: 16MHz, 256kB Flash, 8kB SRAM, 4kB EEPROM, JTAG, QFN-64
pins: 1 PG5, 2 PE0, 3 PE1, 4 PE2, 5 PE3, 6 PE4, 7 PE5, 8 PE6, 9 PE7, 10 PB0, 11 PB1, 12 PB2, 13 PB3, 14 PB4, 15 PB5, 16 PB6, 17 PB7, 18 PG3, 19 PG4, 20 ~{{RESET}}, 21 VCC, 22 GND, 23 XTAL2, 24 XTAL1, 25 PD0, 26 PD1, 27 PD2, 28 PD3, 29 PD4, 30 PD5, 31 PD6, 32 PD7, 33 PG0, 34 PG1, 35 PC0, 36 PC1, 37 PC2, 38 PC3, 39 PC4, 40 PC5, 41 PC6, 42 PC7, 43 PG2, 44 PA7, 45 PA6, 46 PA5, 47 PA4, 48 PA3, 49 PA2, 50 PA1, 51 PA0, 52 VCC, 53 GND, 54 PF7, 55 PF6, 56 PF5, 57 PF4, 58 PF3, 59 PF2, 60 PF1, 61 PF0, 62 AREF, 63 GND, 64 AVCC, 65 GND

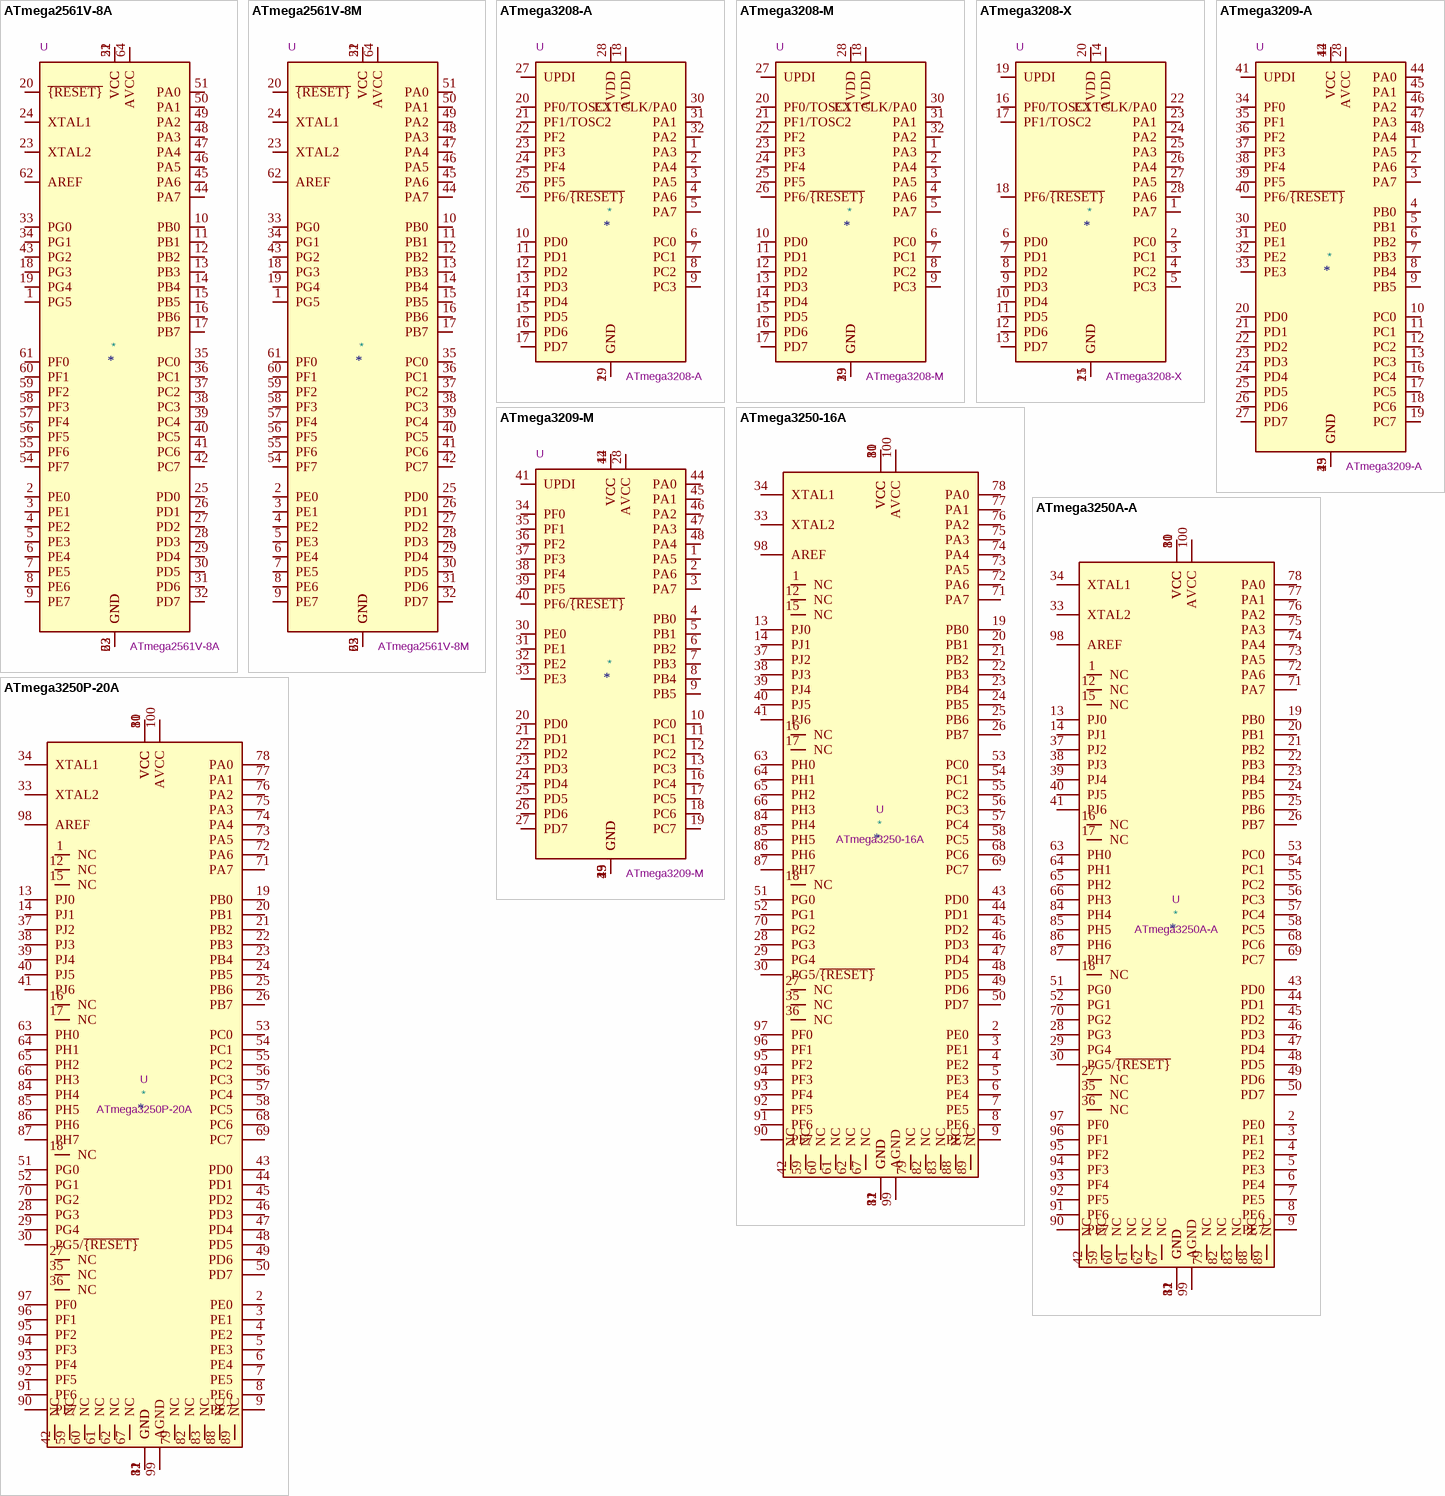
[diagram p25: symbols ATmega2561V-8A to ATmega3250P-20A]

## ATmega2561V-8A
designator *  value ATmega2561V-8A  Reference: U
8MHz, 256kB Flash, 8kB SRAM, 4kB EEPROM, JTAG, TQFP-64; ki_keywords: AVR 8bit Microcontroller MegaAVR; ki_fp_filters: TQFP*14x14mm*P0.8mm*; Footprint: Package_QFP:TQFP-64_14x14mm_P0.8mm; Datasheet: http://ww1.microchip.com/downloads/en/DeviceDoc/Atmel-2549-8-bit-AVR-Microcontroller-ATmega640-1280-1281-2560-2561_datasheet.pdf; Description_: 8MHz, 256kB Flash, 8kB SRAM, 4kB EEPROM, JTAG, TQFP-64
pins: 1 PG5, 2 PE0, 3 PE1, 4 PE2, 5 PE3, 6 PE4, 7 PE5, 8 PE6, 9 PE7, 10 PB0, 11 PB1, 12 PB2, 13 PB3, 14 PB4, 15 PB5, 16 PB6, 17 PB7, 18 PG3, 19 PG4, 20 ~{{RESET}}, 21 VCC, 22 GND, 23 XTAL2, 24 XTAL1, 25 PD0, 26 PD1, 27 PD2, 28 PD3, 29 PD4, 30 PD5, 31 PD6, 32 PD7, 33 PG0, 34 PG1, 35 PC0, 36 PC1, 37 PC2, 38 PC3, 39 PC4, 40 PC5, 41 PC6, 42 PC7, 43 PG2, 44 PA7, 45 PA6, 46 PA5, 47 PA4, 48 PA3, 49 PA2, 50 PA1, 51 PA0, 52 VCC, 53 GND, 54 PF7, 55 PF6, 56 PF5, 57 PF4, 58 PF3, 59 PF2, 60 PF1, 61 PF0, 62 AREF, 63 GND, 64 AVCC

## ATmega2561V-8M
designator *  value ATmega2561V-8M  Reference: U
8MHz, 256kB Flash, 8kB SRAM, 4kB EEPROM, JTAG, QFN-64; ki_keywords: AVR 8bit Microcontroller MegaAVR; ki_fp_filters: QFN*1EP*9x9mm*P0.5mm*; Footprint: Package_DFN_QFN:QFN-64-1EP_9x9mm_P0.5mm_EP7.65x7.65mm; Datasheet: http://ww1.microchip.com/downloads/en/DeviceDoc/Atmel-2549-8-bit-AVR-Microcontroller-ATmega640-1280-1281-2560-2561_datasheet.pdf; Description_: 8MHz, 256kB Flash, 8kB SRAM, 4kB EEPROM, JTAG, QFN-64
pins: 1 PG5, 2 PE0, 3 PE1, 4 PE2, 5 PE3, 6 PE4, 7 PE5, 8 PE6, 9 PE7, 10 PB0, 11 PB1, 12 PB2, 13 PB3, 14 PB4, 15 PB5, 16 PB6, 17 PB7, 18 PG3, 19 PG4, 20 ~{{RESET}}, 21 VCC, 22 GND, 23 XTAL2, 24 XTAL1, 25 PD0, 26 PD1, 27 PD2, 28 PD3, 29 PD4, 30 PD5, 31 PD6, 32 PD7, 33 PG0, 34 PG1, 35 PC0, 36 PC1, 37 PC2, 38 PC3, 39 PC4, 40 PC5, 41 PC6, 42 PC7, 43 PG2, 44 PA7, 45 PA6, 46 PA5, 47 PA4, 48 PA3, 49 PA2, 50 PA1, 51 PA0, 52 VCC, 53 GND, 54 PF7, 55 PF6, 56 PF5, 57 PF4, 58 PF3, 59 PF2, 60 PF1, 61 PF0, 62 AREF, 63 GND, 64 AVCC, 65 GND

## ATmega3208-A
designator *  value ATmega3208-A  Reference: U
20MHz, 32kB Flash, 4kB SRAM, 256B EEPROM, TQFP-32; ki_keywords: AVR 8bit Microcontroller MegaAVR; ki_fp_filters: TQFP*7x7mm*P0.8mm*; Footprint: Package_QFP:TQFP-32_7x7mm_P0.8mm; Datasheet: http://ww1.microchip.com/downloads/en/DeviceDoc/40002017A.pdf; Description_: 20MHz, 32kB Flash, 4kB SRAM, 256B EEPROM, TQFP-32
pins: 1 PA3, 2 PA4, 3 PA5, 4 PA6, 5 PA7, 6 PC0, 7 PC1, 8 PC2, 9 PC3, 10 PD0, 11 PD1, 12 PD2, 13 PD3, 14 PD4, 15 PD5, 16 PD6, 17 PD7, 18 AVDD, 19 GND, 20 PF0/TOSC1, 21 PF1/TOSC2, 22 PF2, 23 PF3, 24 PF4, 25 PF5, 26 PF6/~{{RESET}}, 27 UPDI, 28 VDD, 29 GND, 30 EXTCLK/PA0, 31 PA1, 32 PA2

## ATmega3208-M
designator *  value ATmega3208-M  Reference: U
20MHz, 32kB Flash, 4kB SRAM, 256B EEPROM, VQFN-32; ki_keywords: AVR 8bit Microcontroller MegaAVR; ki_fp_filters: QFN*1EP*5x5mm*P0.5mm*; Footprint: Package_DFN_QFN:QFN-32-1EP_5x5mm_P0.5mm_EP3.1x3.1mm_ThermalVias; Datasheet: http://ww1.microchip.com/downloads/en/DeviceDoc/40002017A.pdf; Description_: 20MHz, 32kB Flash, 4kB SRAM, 256B EEPROM, VQFN-32
pins: 1 PA3, 2 PA4, 3 PA5, 4 PA6, 5 PA7, 6 PC0, 7 PC1, 8 PC2, 9 PC3, 10 PD0, 11 PD1, 12 PD2, 13 PD3, 14 PD4, 15 PD5, 16 PD6, 17 PD7, 18 AVDD, 19 GND, 20 PF0/TOSC1, 21 PF1/TOSC2, 22 PF2, 23 PF3, 24 PF4, 25 PF5, 26 PF6/~{{RESET}}, 27 UPDI, 28 VDD, 29 GND, 30 EXTCLK/PA0, 31 PA1, 32 PA2, 33 GND

## ATmega3208-X
designator *  value ATmega3208-X  Reference: U
20MHz, 32kB Flash, 4kB SRAM, 256B EEPROM, SSOP-28; ki_keywords: AVR 8bit Microcontroller MegaAVR; ki_fp_filters: SSOP*5.3x10.2mm*P0.65mm*; Footprint: Package_SO:SSOP-28_5.3x10.2mm_P0.65mm; Datasheet: http://ww1.microchip.com/downloads/en/DeviceDoc/40002018A.pdf; Description_: 20MHz, 32kB Flash, 4kB SRAM, 256B EEPROM, SSOP-28
pins: 1 PA7, 2 PC0, 3 PC1, 4 PC2, 5 PC3, 6 PD0, 7 PD1, 8 PD2, 9 PD3, 10 PD4, 11 PD5, 12 PD6, 13 PD7, 14 AVDD, 15 GND, 16 PF0/TOSC1, 17 PF1/TOSC2, 18 PF6/~{{RESET}}, 19 UPDI, 20 VDD, 21 GND, 22 EXTCLK/PA0, 23 PA1, 24 PA2, 25 PA3, 26 PA4, 27 PA5, 28 PA6

## ATmega3209-A
designator *  value ATmega3209-A  Reference: U
20MHz, 32kB Flash, 4kB SRAM, 256B EEPROM, TQFP-48; ki_keywords: AVR 8bit Microcontroller MegaAVR; ki_fp_filters: TQFP*7x7mm*P0.5mm*; Footprint: Package_QFP:TQFP-48_7x7mm_P0.5mm; Datasheet: http://ww1.microchip.com/downloads/en/DeviceDoc/40002016A.pdf; Description_: 20MHz, 32kB Flash, 4kB SRAM, 256B EEPROM, TQFP-48
pins: 1 PA5, 2 PA6, 3 PA7, 4 PB0, 5 PB1, 6 PB2, 7 PB3, 8 PB4, 9 PB5, 10 PC0, 11 PC1, 12 PC2, 13 PC3, 14 VCC, 15 GND, 16 PC4, 17 PC5, 18 PC6, 19 PC7, 20 PD0, 21 PD1, 22 PD2, 23 PD3, 24 PD4, 25 PD5, 26 PD6, 27 PD7, 28 AVCC, 29 GND, 30 PE0, 31 PE1, 32 PE2, 33 PE3, 34 PF0, 35 PF1, 36 PF2, 37 PF3, 38 PF4, 39 PF5, 40 PF6/~{{RESET}}, 41 UPDI, 42 VCC, 43 GND, 44 PA0, 45 PA1, 46 PA2, 47 PA3, 48 PA4

## ATmega3209-M
designator *  value ATmega3209-M  Reference: U
20MHz, 32kB Flash, 4kB SRAM, 256B EEPROM, UQFN-48; ki_keywords: AVR 8bit Microcontroller MegaAVR; ki_fp_filters: UQFN*1EP*6x6mm*P0.4mm*; Footprint: Package_DFN_QFN:UQFN-48-1EP_6x6mm_P0.4mm_EP4.62x4.62mm; Datasheet: http://ww1.microchip.com/downloads/en/DeviceDoc/40002016A.pdf; Description_: 20MHz, 32kB Flash, 4kB SRAM, 256B EEPROM, UQFN-48
pins: 1 PA5, 2 PA6, 3 PA7, 4 PB0, 5 PB1, 6 PB2, 7 PB3, 8 PB4, 9 PB5, 10 PC0, 11 PC1, 12 PC2, 13 PC3, 14 VCC, 15 GND, 16 PC4, 17 PC5, 18 PC6, 19 PC7, 20 PD0, 21 PD1, 22 PD2, 23 PD3, 24 PD4, 25 PD5, 26 PD6, 27 PD7, 28 AVCC, 29 GND, 30 PE0, 31 PE1, 32 PE2, 33 PE3, 34 PF0, 35 PF1, 36 PF2, 37 PF3, 38 PF4, 39 PF5, 40 PF6/~{{RESET}}, 41 UPDI, 42 VCC, 43 GND, 44 PA0, 45 PA1, 46 PA2, 47 PA3, 48 PA4, 49 GND